# Altium schematic symbol library User.SchLib: 202 symbols (part 1 of 2)
Pins are listed as number, name and electrical type; pins without a type are passive.

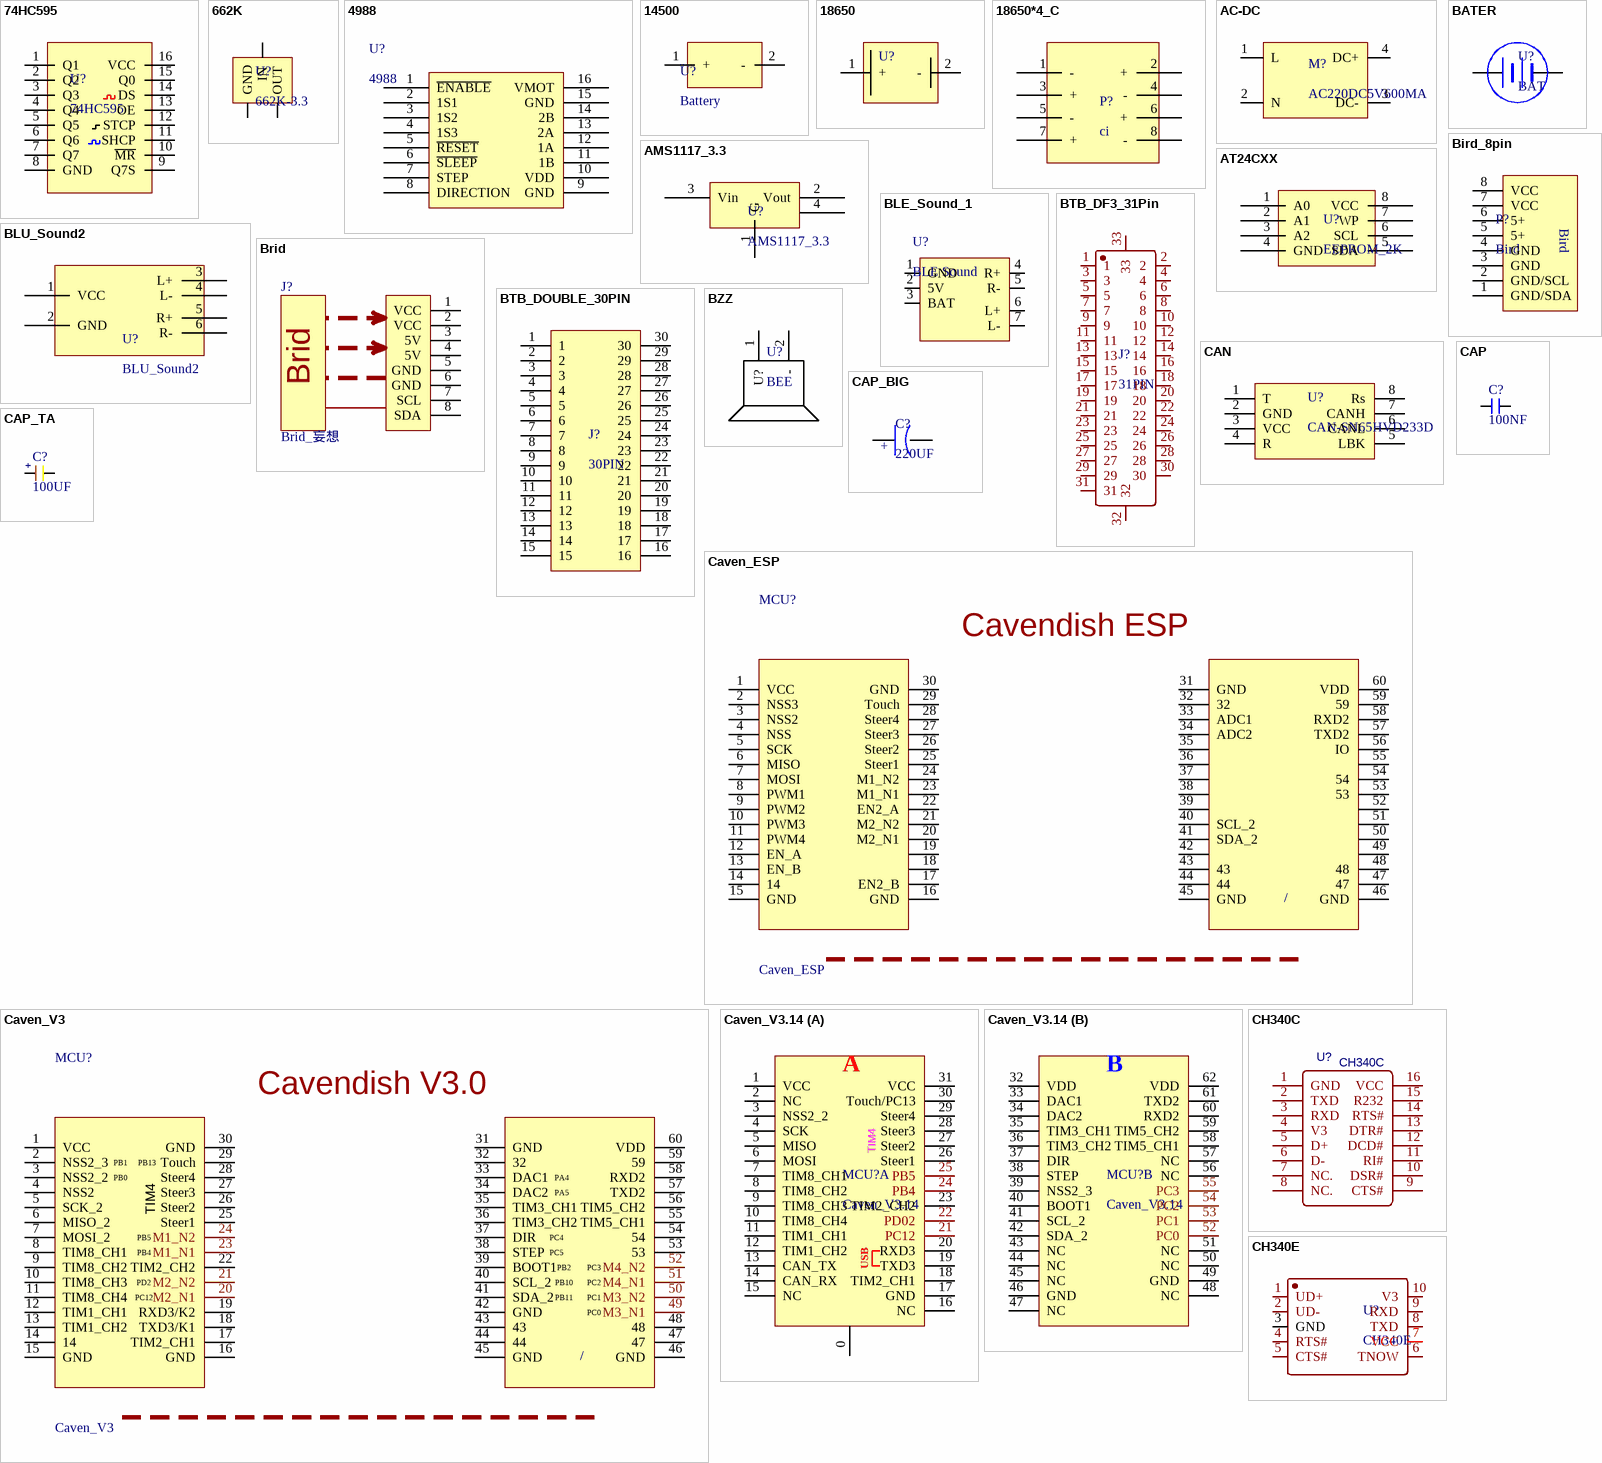
[diagram p0: symbols 74HC595 to CH340E]

## 74HC595
designator U?
IC
footprint SOIC_16
pins: 1 Q1, 2 Q2, 3 Q3, 4 Q4, 5 Q5, 6 Q6, 7 Q7, 8 GND, 9 Q7S, 10 ~{M}~{R}, 11 SHCP, 12 STCP, 13 OE, 14 DS, 15 Q0, 16 VCC

## 662K
designator U?, comment 662K-3.3
DC-DC
footprint SOT23_3
pins: 1 GND, 2 OUT, 3 IN

## 4988
designator U?
MODE
footprint 4988 (MODE)
pins: 1 ~{ENABLE}, 2 1S1, 3 1S2, 4 1S3, 5 ~{RESET}, 6 ~{SLEEP}, 7 STEP, 8 DIRECTION, 9 GND, 10 VDD, 11 1B, 12 1A, 13 2A, 14 2B, 15 GND, 16 VMOT

## 14500
designator U?, comment Battery
Bat
footprint 14500
pins: 1 +, 2 -

## 18650
designator U?, comment Battery  (value not drawn)
Bat
footprint 18650*1
footprint 18650*2
footprint 18650*4_B
footprint 18650*3
pins: 1 +, 2 -

## 18650*4_C
designator P?, comment ci
Bat
footprint 18650*4_C
pins: 1 -, 2 +, 3 +, 4 -, 5 -, 6 +, 7 +, 8 -

## AC-DC
designator M?, comment AC220DC5V600MA
AC-DC; BOM名称: AC-DC模块; 版权归属: 源创客; 学习资源: www.ooocke.com
footprint ADDC302018 (长宽高30*20*18（mm）)
footprint AC-DC
pins: 1 L, 2 N, 3 DC-, 4 DC+

## AMS1117_3.3
designator U?
DC-DC
footprint SOT223_3
pins: 1 G, 2 Vout, 3 Vin, 4 Vout

## AT24CXX
designator U?, comment EEPROM_2K
EEPROM
footprint SOIC_8
pins: 1 A0, 2 A1, 3 A2, 4 GND, 5 SDA, 6 SCL, 7 WP, 8 VCC

## BATER
designator U?, comment BAT
footprint CP1220
footprint CR_1220
pins: 1 +, 2 -

## Bird_8pin
designator P?, comment Bird
Header
footprint XH2.54-WS-8P (长：25mm，宽：8mm，高：6.1mm)
pins: 1 GND/SDA, 2 GND/SCL, 3 GND, 4 GND, 5 5+, 6 5+, 7 VCC, 8 VCC

## BLE_Sound_1
designator U?, comment BLE Sound
bule_tooth
footprint BLE_Sound_1
pins: 1 GND, 2 5V, 3 BAT, 4 R+, 5 R-, 6 L+, 7 L-

## BLU_Sound2
designator U?
bule_tooth
footprint BLE_Sound_2
pins: 1 VCC, 2 GND, 3 L+, 4 L-, 5 R+, 6 R-

## Brid
designator J?, comment Brid_妄想
Brid
footprint XH2.54-WS-8P (长：25mm，宽：8mm，高：6.1mm)
footprint Brid
pins: 1 VCC, 2 VCC, 3 5V, 4 5V, 5 GND, 6 GND, 7 SCL, 8 SDA

## BTB_DF3_31Pin
designator J?, comment 31PIN
BTB
footprint BTB-DF3-31P (1MM)
footprint BTB-DM3-31P
pins: 1, 2, 3, 4, 5, 6, 7, 8, 9, 10, 11, 12, 13, 14, 15, 16, 17, 18, 19, 20, 21, 22, 23, 24, 25, 26, 27, 28, 29, 30, 31, 32, 33

## BTB_DOUBLE_30PIN
designator J?, comment 30PIN
BTB
footprint BTB_Double_30Pin_Up
footprint BTB_Double_30PIN_D (0.8MM)
pins: 1, 2, 3, 4, 5, 6, 7, 8, 9, 10, 11, 12, 13, 14, 15, 16, 17, 18, 19, 20, 21, 22, 23, 24, 25, 26, 27, 28, 29, 30

## BZZ
designator U?, comment BEE
footprint BEE-FMQ5mm
footprint BEE-FMQ7.6mm
footprint SMD402
pins: 1 U?, 2 -

## CAN
designator U?, comment CAN-SN65HVD233D
CAN
footprint SOIC_8 (58mm)
pins: 1 T, 2 GND, 3 VCC, 4 R, 5 LBK, 6 CANL, 7 CANH, 8 Rs

## CAP
designator C?, comment 100NF
CAP  12~50V
footprint CAP_0603
footprint CAP_0805
footprint CAP_1206
footprint CAP_0402 - duplicate
pins: 1 0, 2 0

## CAP_BIG
designator C?, comment 220UF
CAP 12V ~ 50V   电解电容
footprint CAPE_D (6.3X6.6X5.4)
footprint CAPE_B (4X4.3X5.4)
footprint CAPE_E (8X8.3X6.2)
footprint CAP_PR_2.5_8 (8X12)
footprint CAP_PR_2.5_6.3_RA (6.3X11)
pins: 1 0, 2 0
text: +

## CAP_TA
designator C?, comment 100UF
CAP  6~12V  钽电容
footprint CAP_3528_B
footprint CAP_6032_C
footprint CAP_3216_A
footprint CAP_2012_R
pins: 1 0, 2 0
text: +

## Caven_ESP
designator MCU?
MCU Caven
footprint Caven_ESP
pins: 1 VCC, 2 NSS3, 3 NSS2, 4 NSS, 5 SCK, 6 MISO, 7 MOSI, 8 PWM1, 9 PWM2, 10 PWM3, 11 PWM4, 12 EN_A, 13 EN_B, 14, 15 GND, 16 GND, 17 EN2_B, 18 TXD3/K1, 19 RXD3/K2, 20 M2_N1, 21 M2_N2, 22 EN2_A, 23 M1_N1, 24 M1_N2, 25 Steer1, 26 Steer2, 27 Steer3, 28 Steer4, 29 Touch, 30 GND, 31 GND, 32, 33 ADC1, 34 ADC2, 35 TIM3_CH1, 36 TIM3_CH2, 37 DIR, 38 STEP, 39 BOOT1, 40 SCL_2, 41 SDA_2, 42 GND, 43, 44, 45 GND, 46 GND, 47, 48, 49 M3_N1, 50 M3_N2, 51 M4_N1, 52 M4_N2, 53, 54, 55 TIM5_CH1, 56 IO, 57 TXD2, 58 RXD2, 59, 60 VDD
text: Cavendish ESP; /

## Caven_V3
designator MCU?
MCU STM32_Caven
footprint Caven_STM32
pins: 1 VCC, 2 NSS2_3, 3 NSS2_2, 4 NSS2, 5 SCK_2, 6 MISO_2, 7 MOSI_2, 8 TIM8_CH1, 9 TIM8_CH2, 10 TIM8_CH3, 11 TIM8_CH4, 12 TIM1_CH1, 13 TIM1_CH2, 14, 15 GND, 16 GND, 17 TIM2_CH1, 18 TXD3/K1, 19 RXD3/K2, 20 M2_N1, 21 M2_N2, 22 TIM2_CH2, 23 M1_N1, 24 M1_N2, 25 Steer1, 26 Steer2, 27 Steer3, 28 Steer4, 29 Touch, 30 GND, 31 GND, 32, 33 DAC1, 34 DAC2, 35 TIM3_CH1, 36 TIM3_CH2, 37 DIR, 38 STEP, 39 BOOT1, 40 SCL_2, 41 SDA_2, 42 GND, 43, 44, 45 GND, 46 GND, 47, 48, 49 M3_N1, 50 M3_N2, 51 M4_N1, 52 M4_N2, 53, 54, 55 TIM5_CH1, 56 TIM5_CH2, 57 TXD2, 58 RXD2, 59, 60 VDD
text: Cavendish V3.0; PB1; PB13; PB0; PA4; PA5; TIM4; PB5; PC4; PB4; PC5; PB2; PC3; PD2; PB10; PC2; PC12; PB11; PC1; PC0; /

## Caven_V3.14
designator MCU?
MCU_STM32F103RE
footprint Caven_3.14
part A pins: 0, 1 VCC, 2 NC, 3 NSS2_2, 4 SCK, 5 MISO, 6 MOSI, 7 TIM8_CH1, 8 TIM8_CH2, 9 TIM8_CH3, 10 TIM8_CH4, 11 TIM1_CH1, 12 TIM1_CH2, 13 CAN_TX, 14 CAN_RX, 15 NC, 16 NC, 17 GND, 18 TIM2_CH1, 19 TXD3, 20 RXD3, 21 PC12, 22 PD02, 23 TIM2_CH2, 24 PB4, 25 PB5, 26 Steer1, 27 Steer2, 28 Steer3, 29 Steer4, 30 Touch/PC13, 31 VCC
part B pins: 32 VDD, 33 DAC1, 34 DAC2, 35 TIM3_CH1, 36 TIM3_CH2, 37 DIR, 38 STEP, 39 NSS2_3, 40 BOOT1, 41 SCL_2, 42 SDA_2, 43 NC, 44 NC, 45 NC, 46 GND, 47 NC, 48 NC, 49 GND, 50 NC, 51 NC, 52 PC0, 53 PC1, 54 PC2, 55 PC3, 56 NC, 57 NC, 58 TIM5_CH1, 59 TIM5_CH2, 60 RXD2, 61 TXD2, 62 VDD
part A text: A; TIM4; USB
part B text: B

## CH340C
designator U?
BOM_Manufacturer: WCH; BOM_Paste Type: recommend; BOM_Supplier: LCSC; BOM_Manufacturer Part: CH340C; BOM_Supplier Part: C84681; spicePre: U; spiceSymbolName: CH340C
footprint SOIC_16
footprint SOP16 (SOP, 16-Leads, Body 9.90x3.90mm, Pitch 1.27mm, IPC Medium Density)
pins: 1 GND, 2 TXD, 3 RXD, 4 V3, 5 D+, 6 D-, 7 NC., 8 NC., 9 CTS#, 10 DSR#, 11 RI#, 12 DCD#, 13 DTR#, 14 RTS#, 15 R232, 16 VCC

## CH340E
designator U?
IC CH340E 10pin
footprint MSOP_10
pins: 1 UD+, 2 UD-, 3 GND, 4 RTS#, 5 CTS#, 6 TNOW, 7 VCC, 8 TXD, 9 RXD, 10 V3

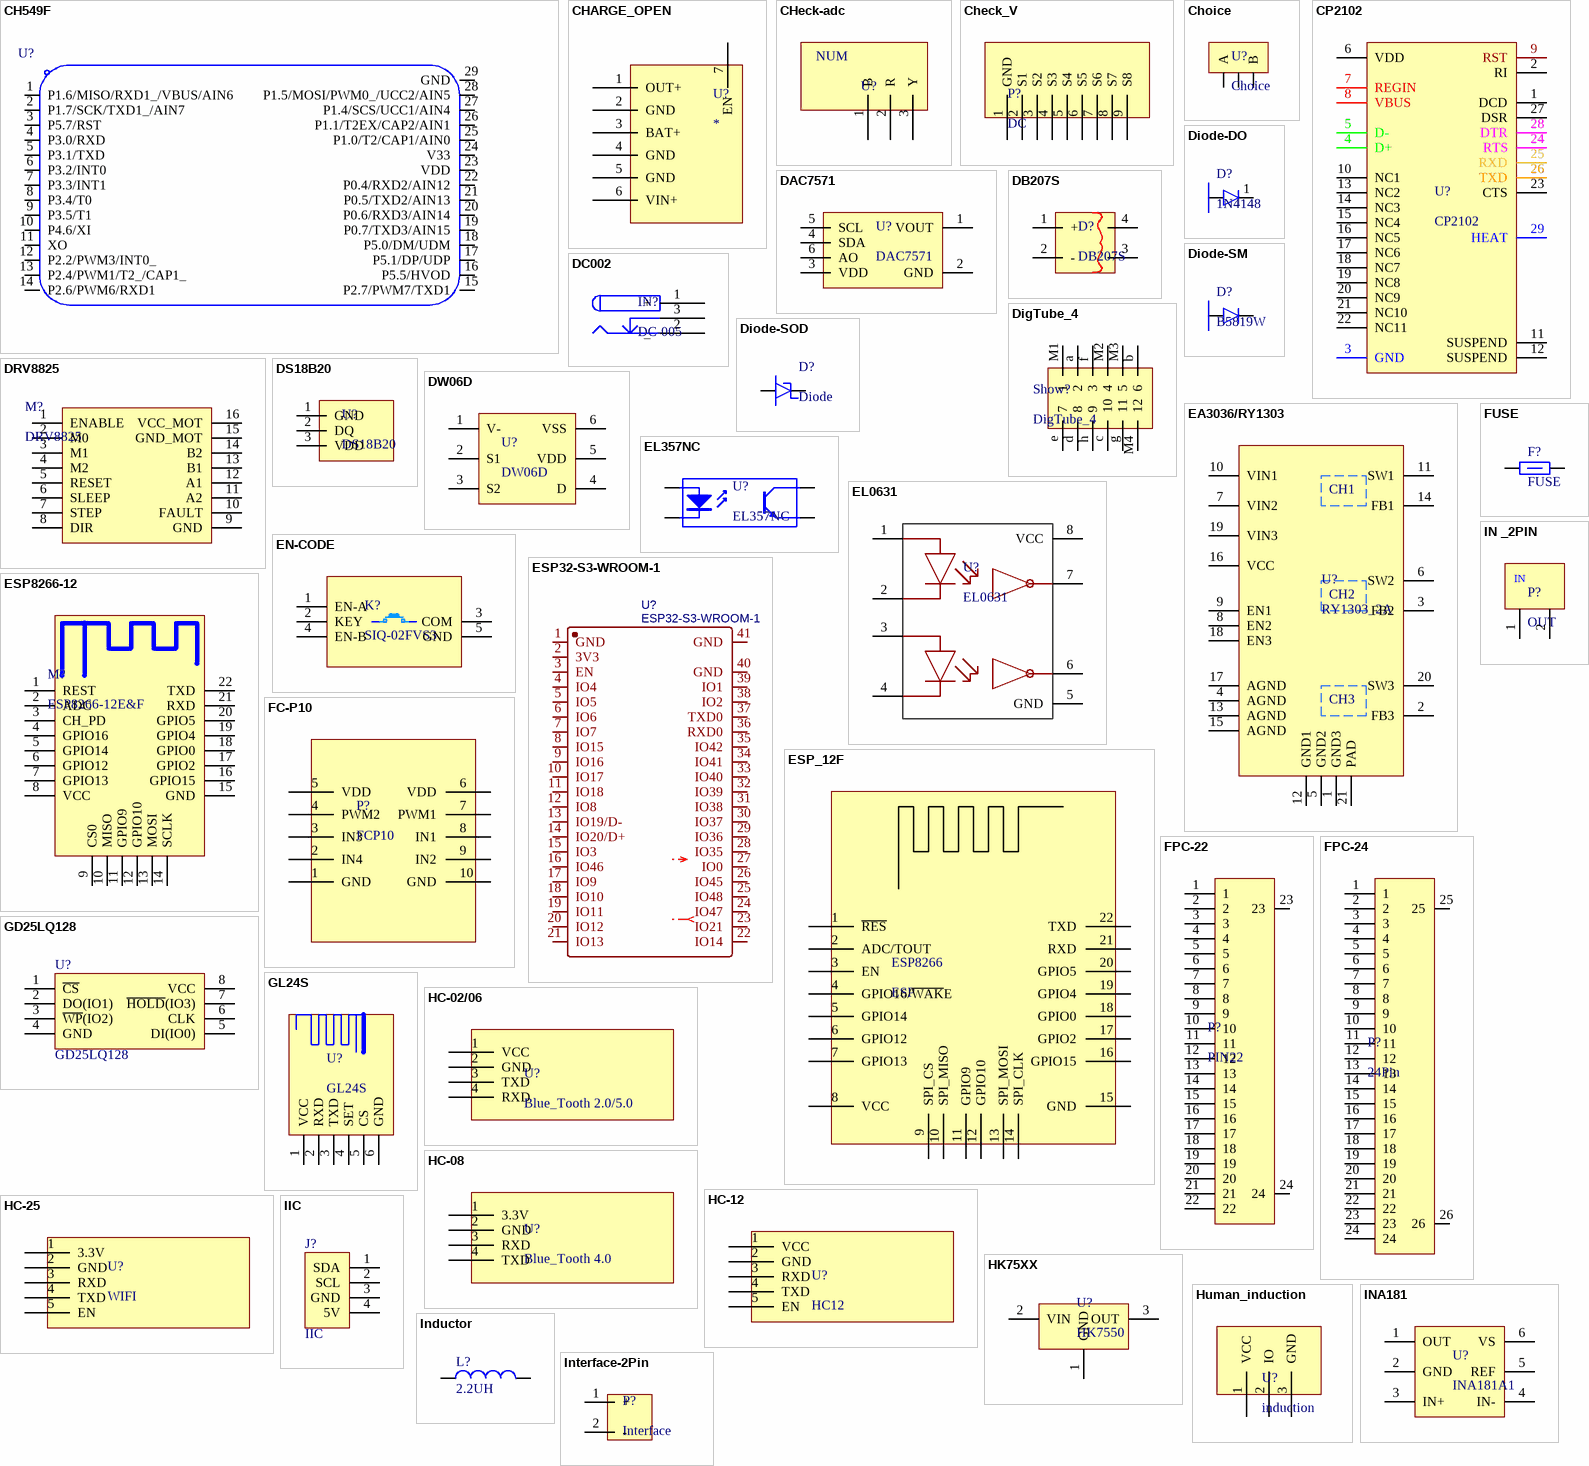
[diagram p1: symbols CH549F to Interface-2Pin]

## CH549F
designator U?
MCU; Manufacturer: WCH(南京沁恒); Add into BOM: yes; CPU Core: 51系列; Maximum Frequency: 48MHz; Supply Voltage Range: 3.3V~5V; Internal Oscillator: 有; External Clock Frequency Rang: 6MHz~25MHz; Program FLASH Size: 64KB; RAM Size: 2.25KB; EEPROM/Data FLASH Size: 1KB; ADC (Units/Channels/bits): 1@x16ch/12bit; (E)PWM (Units/Channels/bits): 1@x8ch/8bit; 16Bit Timer Number: 3; U(S)ART Number: 4; (Q)SPI Number: 1; USB (H/D/OTG): 全速USB Host/Device; Peripherals / Functions / Protocol Stacks: 低电压检测；看门狗；CCP捕获/比较；触控按键；片载温度传感器；CRC校验；DMA; Symbol: CH549F; Device: CH549F; LCSC Part Name: CH549F; Supplier Part: C367229; Manufacturer Part: CH549F; Supplier Footprint: QFN-28; JLCPCB Part Class: Extended Part; Datasheet: https://atta.szlcsc.com/upload/public/pdf/source/20200819/C367229_D216FC0E0489DFB21C5778C34F7DC8A5.pdf; Supplier: LCSC; Convert to PCB: yes; GPIO Ports Number: -; DAC (Units/Channels/bits): -; 8Bit Timer Number: -; 32Bit Timer Number: -; CMP Number: -; I2C Number: -; I2S Number: -; CAN Number: -; Operating Temperature Range: -40~+70
footprint QFN28_4X4_L
pins: 1 P1.6/MISO/RXD1_/VBUS/AIN6, 2 P1.7/SCK/TXD1_/AIN7, 3 P5.7/RST, 4 P3.0/RXD, 5 P3.1/TXD, 6 P3.2/INT0, 7 P3.3/INT1, 8 P3.4/T0, 9 P3.5/T1, 10 P4.6/XI, 11 XO, 12 P2.2/PWM3/INT0_, 13 P2.4/PWM1/T2_/CAP1_, 14 P2.6/PWM6/RXD1, 15 P2.7/PWM7/TXD1, 16 P5.5/HVOD, 17 P5.1/DP/UDP, 18 P5.0/DM/UDM, 19 P0.7/TXD3/AIN15, 20 P0.6/RXD3/AIN14, 21 P0.5/TXD2/AIN13, 22 P0.4/RXD2/AIN12, 23 VDD, 24 V33, 25 P1.0/T2/CAP1/AIN0, 26 P1.1/T2EX/CAP2/AIN1, 27 P1.4/SCS/UCC1/AIN4, 28 P1.5/MOSI/PWM0_/UCC2/AIN5, 29 GND

## CHARGE_OPEN
designator U?
DC-DC
footprint CHARGE_OPEN
pins: 1 OUT+, 2 GND, 3 BAT+, 4 GND, 5 GND, 6 VIN+, 7 EN

## CHeck-adc
designator U?, comment CHECK  (value not drawn)
MODE
footprint CHECK (VEL-CHECK)
pins: 1 B, 2 R, 3 Y
text: NUM

## Check_V
designator P?, comment DC
Show
footprint CHECH_V9
pins: 1 GND, 2 S1, 3 S2, 4 S3, 5 S4, 6 S5, 7 S6, 8 S7, 9 S8

## Choice
designator U?
footprint Choice_2
footprint Choose_3
pins: 1 A, 2, 3 B

## CP2102
designator U?
USB-TTL
footprint QFN28 5x5_N (28脚，长x宽x高：5x5x0.8mm，脚距：0.5mm)
pins: 1 DCD, 2 RI, 3 GND, 4 D+, 5 D-, 6 VDD, 7 REGIN, 8 VBUS, 9 RST, 10 NC1, 11 SUSPEND, 12 SUSPEND, 13 NC2, 14 NC3, 15 NC4, 16 NC5, 17 NC6, 18 NC7, 19 NC8, 20 NC9, 21 NC10, 22 NC11, 23 CTS, 24 RTS, 25 RXD, 26 TXD, 27 DSR, 28 DTR, 29 HEAT

## DAC7571
designator U?
DAC
footprint SOT-23-6
pins: 1 VOUT, 2 GND, 3 VDD, 4 SDA, 5 SCL, 6 AO

## DB207S
designator D?
footprint Diode_DB107S
pins: 1 +, 2 -, 3, 4

## DC002
designator IN?, comment DC-005
Interface
footprint DC-6mm
footprint DC002
footprint DC-005
pins: 1 +, 2 _, 3 _

## DigTube_4
designator Show?
Show
footprint DigTube_4
footprint DIG_3
pins: a 2, b 6, c 10, d 8, e 7, f 3, g 11, h 9, M1 1, M2 4, M3 5, M4 12

## Diode-DO
designator D?, comment 1N4148
Diode_肖特基/二极管 / 直插
footprint Diode_DO15
footprint Diode_DO35
footprint Diode_DO201AD
pins: 1 N, 2 P

## Diode-SM
designator D?, comment B5819W
Diode_肖特基/二极管
footprint Diode_SMA (SMA)
footprint DIODE-SMB
footprint SMC (DO-214AB(2114))
footprint DIODE_SOD123
pins: 1 P, 2 N

## Diode-SOD
designator D?, comment Diode
Diode    /稳压
footprint SOD123
footprint SOD323
footprint SOD523
footprint DIODE_1206
pins: 1 N, 2 P

## DRV8825
designator M?
MODE 步进电机; BOM名称: 步进电机驱动模块; 版权归属: 源创客; 学习资源: www.ooocke.com
footprint DRV8825 (长:20.5mm，宽:15.5mm，高:5mm)
pins: 1 ENABLE, 2 M0, 3 M1, 4 M2, 5 RESET, 6 SLEEP, 7 STEP, 8 DIR, 9 GND, 10 FAULT, 11 A2, 12 A1, 13 B1, 14 B2, 15 GND_MOT, 16 VCC_MOT

## DS18B20
designator U?
MODE
footprint TO_92B
pins: 1 GND, 2 DQ, 3 VDD

## DW06D
designator U?
Bat
footprint SOT23_6
pins: 1 V-, 2 S1, 3 S2, 4 D, 5 VDD, 6 VSS

## EA3036/RY1303
designator U?, comment RY1303_2A
DC-DC 多路
footprint QFN-20 (3*3MM)
pins: 1 GND3, 2 FB3, 3 FB2, 4 AGND, 5 GND2, 6 SW2, 7 VIN2, 8 EN2, 9 EN1, 10 VIN1, 11 SW1, 12 GND1, 13 AGND, 14 FB1, 15 AGND, 16 VCC, 17 AGND, 18 EN3, 19 VIN3, 20 SW3, 21 PAD
text: CH1; CH2; CH3

## EL357NC
designator U?
footprint SOP4 (AQY211G2S)
pins: 1 A "Anode", 2 K "Cathode", 3 E "Emitter", 4 C "Collector"

## EL0631
designator U?
pins: 1, 2, 3, 4, 5 GND, 6, 7, 8 VCC

## EN-CODE
designator K?, comment SIQ-02FVS3
KEY
footprint Rotary Encoder
footprint EC-11
pins: 1 EN-A, 2 KEY, 3 COM, 4 EN-B, 5 GND

## ESP32-S3-WROOM-1
designator U?
BOM_Manufacturer: Espressif Systems; BOM_Manufacturer Part: ESP32-SOLO-1; Contributor: LCSC; BOM_Supplier: LCSC; BOM_Supplier Part: C473005; BOM_JLCPCB Part Class: Extended Part; spicePre: U; spiceSymbolName: ESP32-S3-WROOM-1
footprint ESP32-S3-WROOM-1
pins: 1 GND, 2 3V3, 3 EN, 4 IO4, 5 IO5, 6 IO6, 7 IO7, 8 IO15, 9 IO16, 10 IO17, 11 IO18, 12 IO8, 13 IO19/D-, 14 IO20/D+, 15 IO3, 16 IO46, 17 IO9, 18 IO10, 19 IO11, 20 IO12, 21 IO13, 22 IO14, 23 IO21, 24 IO47, 25 IO48, 26 IO45, 27 IO0, 28 IO35, 29 IO36, 30 IO37, 31 IO38, 32 IO39, 33 IO40, 34 IO41, 35 IO42, 36 RXD0, 37 TXD0, 38 IO2, 39 IO1, 40 GND, 41 GND

## ESP8266-12
designator M?, comment ESP8266-12E&F
MODE; BOM名称: WIFI模块; 版权归属: 源创客; 学习资源: www.ooocke.com
footprint ESP-12F (ESP-12E&F)
pins: 1 REST, 2 ADC, 3 CH_PD, 4 GPIO16, 5 GPIO14, 6 GPIO12, 7 GPIO13, 8 VCC, 9 CS0, 10 MISO, 11 GPIO9, 12 GPIO10, 13 MOSI, 14 SCLK, 15 GND, 16 GPIO15, 17 GPIO2, 18 GPIO0, 19 GPIO4, 20 GPIO5, 21 RXD, 22 TXD

## ESP_12F
designator ESP8266, comment ESP
ESP8266
footprint ESP-12
pins: 1 ~{RES}, 2 ADC/TOUT, 3 EN, 4 GPIO16/~{WAK}E, 5 GPIO14, 6 GPIO12, 7 GPIO13, 8 VCC, 9 SPI_CS, 10 SPI_MISO, 11 GPIO9, 12 GPIO10, 13 SPI_MOSI, 14 SPI_CLK, 15 GND, 16 GPIO15, 17 GPIO2, 18 GPIO0, 19 GPIO4, 20 GPIO5, 21 RXD, 22 TXD

## FC-P10
designator P?, comment FCP10
P10
footprint IDC_10P
pins: 1 GND, 2 IN4, 3 IN3, 4 PWM2, 5 VDD, 6 VDD, 7 PWM1, 8 IN1, 9 IN2, 10 GND

## FPC-22
designator P?, comment PIN22
FPC-22
footprint FPC_22PIN
pins: 1, 2, 3, 4, 5, 6, 7, 8, 9, 10, 11, 12, 13, 14, 15, 16, 17, 18, 19, 20, 21, 22, 23, 24

## FPC-24
designator P?, comment 24Pin
FPC-24Pin-0.5mm
footprint FPC-24Pin
pins: 1, 2, 3, 4, 5, 6, 7, 8, 9, 10, 11, 12, 13, 14, 15, 16, 17, 18, 19, 20, 21, 22, 23, 24, 25, 26

## FUSE
designator F?
footprint FUSE_5X20
footprint FUSE_1206
footprint FUSE_1812
footprint Fuse_0805
footprint Fuse_0603
footprint FU 0805 (贴片保险丝)
pins: 1, 2

## GD25LQ128
designator U?
WSON-8
footprint WSON8
pins: 1 ~{CS}, 2 DO(IO1), 3 ~{WP}(IO2), 4 GND, 5 DI(IO0), 6 CLK, 7 ~{HOLD}(IO3), 8 VCC

## GL24S
designator U?
footprint GL24S
pins: 1 VCC, 2 RXD, 3 TXD, 4 SET, 5 CS, 6 GND

## HC-02/06
designator U?, comment Blue_Tooth 2.0/5.0
MODE
footprint P4_
footprint uart-Haerd
pins: 1 VCC, 2 GND, 3 TXD, 4 RXD

## HC-08
designator U?, comment Blue_Tooth 4.0
MODE
footprint P4_
pins: 1 3.3V, 2 GND, 3 RXD, 4 TXD

## HC-12
designator U?, comment HC12
MODE
footprint P5_EN
pins: 1 VCC, 2 GND, 3 RXD, 4 TXD, 5 EN

## HC-25
designator U?, comment WIFI
MODE
footprint P5_EN
pins: 1 3.3V, 2 GND, 3 RXD, 4 TXD, 5 EN

## HK75XX
designator U?, comment HK7550
DC-DC
footprint SOT89
pins: 1 GND, 2 VIN, 3 OUT

## Human_induction
designator U?, comment induction
footprint CHECK_3
pins: 1 VCC, 2 IO, 3 GND

## IIC
designator J?
Heard
footprint XH2.54-WI-4P (接插件，4P)
footprint XH2.54-WS-4P (长：15mm，宽：8mm，高：6.1mm)
footprint Header 2.54X4
footprint IIC-XH2.54-4PIN (-XH2.54-4PIN-)
pins: 1 SDA, 2 SCL, 3 GND, 4 5V

## IN _2PIN
designator P?, comment OUT
Header
footprint Header 2.54X2
footprint XH2.54-WI-2P (接插件，2P)
footprint PIN-2_5.08
footprint XT60-PW-M20 (长：18.8mm， 宽：16mm，高：8.6mm)
pins: 1, 2
text: IN

## INA181
designator U?, comment INA181A1
INA181 电流放大器 / 20v/v / 200v/v
footprint SOT-23-6
pins: 1 OUT, 2 GND, 3 IN+, 4 IN-, 5 REF, 6 VS

## Inductor
designator L?, comment 2.2UH
Inductor; Code_IEC: 1005; Published: 8-Jun-2000; LatestRevisionDate: 29-May-2009; LatestRevisionNote: IPC-7351 Footprint Added.; PackageReference: 0402-A; Publisher: Altium Limited; PackageDescription: Chip Inductor; Code_JEITA: 0402
footprint Inductance_nr
footprint INDUCTANCE_0630
footprint Inductor_0603
footprint Inductor_1206
footprint Inductor_0805
footprint Inductor_TC5026
footprint Inductor_CD_54
pins: 1, 2

## Interface-2Pin
designator P?, comment Interface
footprint 2PIN-5.08A
footprint 2PIN-5.08B (3A)
footprint PIN-2_5.08
footprint KF2EDGR_2P
footprint HB-9500_2P (2p_9.5mm)
pins: 1 +, 2 -

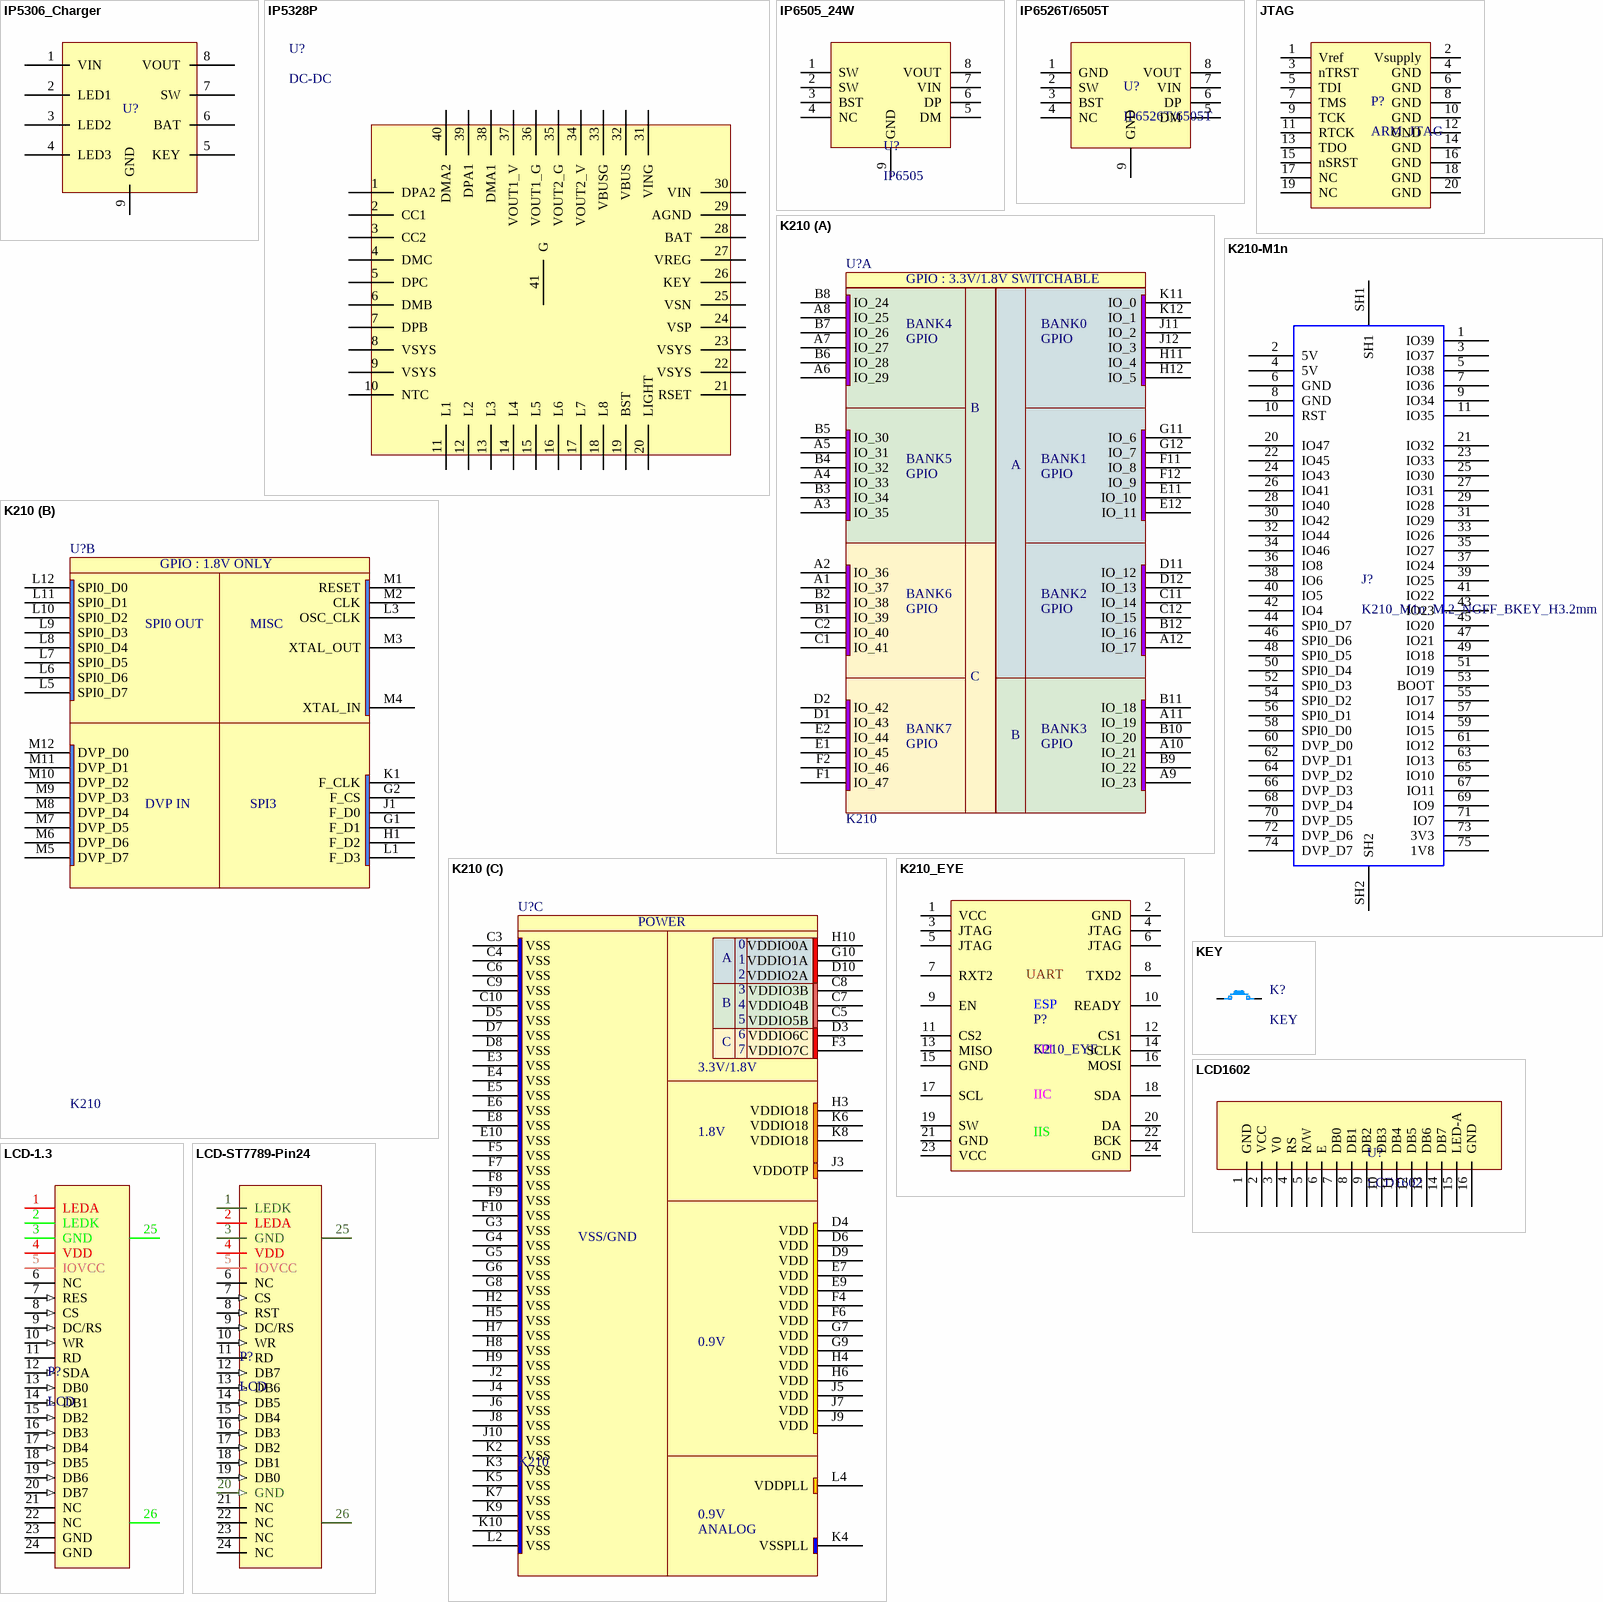
[diagram p2: symbols IP5306_Charger to LCD-ST7789-Pin24]

## IP5306_Charger
designator U?, comment CHARGER  (value not drawn)
DC-DC
footprint SOP8E_M (5.6*1.8mm（长宽高）)
pins: 1 VIN, 2 LED1, 3 LED2, 4 LED3, 5 KEY, 6 BAT, 7 SW, 8 VOUT, 9 GND

## IP5328P
designator U?, comment DC-DC
footprint QFN40_6X6
pins: 1 DPA2, 2 CC1, 3 CC2, 4 DMC, 5 DPC, 6 DMB, 7 DPB, 8 VSYS, 9 VSYS, 10 NTC, 11 L1, 12 L2, 13 L3, 14 L4, 15 L5, 16 L6, 17 L7, 18 L8, 19 BST, 20 LIGHT, 21 RSET, 22 VSYS, 23 VSYS, 24 VSP, 25 VSN, 26 KEY, 27 VREG, 28 BAT, 29 AGND, 30 VIN, 31 VING, 32 VBUS, 33 VBUSG, 34 VOUT2_V, 35 VOUT2_G, 36 VOUT1_G, 37 VOUT1_V, 38 DMA1, 39 DPA1, 40 DMA2, 41 G

## IP6505_24W
designator U?, comment IP6505
DC-DC
footprint SOP8E_M (5.6*1.8mm（长宽高）)
pins: 1 SW, 2 SW, 3 BST, 4 NC, 5 DM, 6 DP, 7 VIN, 8 VOUT, 9 GND

## IP6526T/6505T
designator U?
DC-DC
footprint SOP8E_M (5.6*1.8mm（长宽高）)
pins: 1 GND, 2 SW, 3 BST, 4 NC, 5 DM, 6 DP, 7 VIN, 8 VOUT, 9 GND

## JTAG
designator P?, comment ARM_JTAG
Interface
footprint JTAG20
pins: 1 Vref, 2 Vsupply, 3 nTRST, 4 GND, 5 TDI, 6 GND, 7 TMS, 8 GND, 9 TCK, 10 GND, 11 RTCK, 12 GND, 13 TDO, 14 GND, 15 nSRST, 16 GND, 17 NC, 18 GND, 19 NC, 20 GND

## K210
designator U?
Canaan Kendryte K210 AI SoC; VENDOR: CANAAN INC.
footprint K210
part A pins: A1 IO_37 "Voltage switchable GPIO for FPIOA (3.3V or 1.8V). After reset is :  GPIOHS21.", A2 IO_36 "Voltage switchable GPIO for FPIOA (3.3V or 1.8V). After reset is :  GPIOHS20.", A3 IO_35 "Voltage switchable GPIO for FPIOA (3.3V or 1.8V). After reset is :  GPIOHS19.", A4 IO_33 "Voltage switchable GPIO for FPIOA (3.3V or 1.8V). After reset is :  GPIOHS17.", A5 IO_31 "Voltage switchable GPIO for FPIOA (3.3V or 1.8V). After reset is :  GPIOHS15.", A6 IO_29 "Voltage switchable GPIO for FPIOA (3.3V or 1.8V). After reset is :  GPIOHS13.", A7 IO_27 "Voltage switchable GPIO for FPIOA (3.3V or 1.8V). After reset is :  GPIOHS11.", A8 IO_25 "Voltage switchable GPIO for FPIOA (3.3V or 1.8V). After reset is :  GPIOHS9.", A9 IO_23 "Voltage switchable GPIO for FPIOA (3.3V or 1.8V). After reset is :  GPIOHS7.", A10 IO_21 "Voltage switchable GPIO for FPIOA (3.3V or 1.8V). After reset is :  GPIOHS5.", A11 IO_19 "Voltage switchable GPIO for FPIOA (3.3V or 1.8V). After reset is :  GPIOHS3.", A12 IO_17 "Voltage switchable GPIO for FPIOA (3.3V or 1.8V). After reset is :  GPIOHS1.", B1 IO_39 "Voltage switchable GPIO for FPIOA (3.3V or 1.8V). After reset is :  GPIOHS23.", B2 IO_38 "Voltage switchable GPIO for FPIOA (3.3V or 1.8V). After reset is :  GPIOHS22.", B3 IO_34 "Voltage switchable GPIO for FPIOA (3.3V or 1.8V). After reset is :  GPIOHS18.", B4 IO_32 "Voltage switchable GPIO for FPIOA (3.3V or 1.8V). After reset is :  GPIOHS16.", B5 IO_30 "Voltage switchable GPIO for FPIOA (3.3V or 1.8V). After reset is :  GPIOHS14.", B6 IO_28 "Voltage switchable GPIO for FPIOA (3.3V or 1.8V). After reset is :  GPIOHS12.", B7 IO_26 "Voltage switchable GPIO for FPIOA (3.3V or 1.8V). After reset is :  GPIOHS10.", B8 IO_24 "Voltage switchable GPIO for FPIOA (3.3V or 1.8V). After reset is :  GPIOHS8.", B9 IO_22 "Voltage switchable GPIO for FPIOA (3.3V or 1.8V). After reset is :  GPIOHS6.", B10 IO_20 "Voltage switchable GPIO for FPIOA (3.3V or 1.8V). After reset is :  GPIOHS4.", B11 IO_18 "Voltage switchable GPIO for FPIOA (3.3V or 1.8V). After reset is :  GPIOHS2.", B12 IO_16 "Voltage switchable GPIO for FPIOA (3.3V or 1.8V). After reset is :  GPIOHS0.", C1 IO_41 "Voltage switchable GPIO for FPIOA (3.3V or 1.8V). After reset is :  GPIOHS25.", C2 IO_40 "Voltage switchable GPIO for FPIOA (3.3V or 1.8V). After reset is :  GPIOHS24.", C11 IO_14 "Voltage switchable GPIO for FPIOA (3.3V or 1.8V). After reset is :  GPIO6.", C12 IO_15 "Voltage switchable GPIO for FPIOA (3.3V or 1.8V). After reset is :  GPIO7.", D1 IO_43 "Voltage switchable GPIO for FPIOA (3.3V or 1.8V). After reset is :  GPIOHS27.", D2 IO_42 "Voltage switchable GPIO for FPIOA (3.3V or 1.8V). After reset is :  GPIOHS26.", D11 IO_12 "Voltage switchable GPIO for FPIOA (3.3V or 1.8V). After reset is :  GPIO4.", D12 IO_13 "Voltage switchable GPIO for FPIOA (3.3V or 1.8V). After reset is :  GPIO5.", E1 IO_45 "Voltage switchable GPIO for FPIOA (3.3V or 1.8V). After reset is :  GPIOHS29.", E2 IO_44 "Voltage switchable GPIO for FPIOA (3.3V or 1.8V). After reset is :  GPIOHS28.", E11 IO_10 "Voltage switchable GPIO for FPIOA (3.3V or 1.8V). After reset is :  GPIO2.", E12 IO_11 "Voltage switchable GPIO for FPIOA (3.3V or 1.8V). After reset is :  GPIO3.", F1 IO_47 "Voltage switchable GPIO for FPIOA (3.3V or 1.8V). After reset is :  GPIOHS31.", F2 IO_46 "Voltage switchable GPIO for FPIOA (3.3V or 1.8V). After reset is :  GPIOHS30.", F11 IO_8 "Voltage switchable GPIO for FPIOA (3.3V or 1.8V). After reset is :  GPIO0.", F12 IO_9 "Voltage switchable GPIO for FPIOA (3.3V or 1.8V). After reset is :  GPIO1.", G11 IO_6 "Voltage switchable GPIO for FPIOA (3.3V or 1.8V). After reset is :  (FLOAT*).", G12 IO_7 "Voltage switchable GPIO for FPIOA (3.3V or 1.8V). After reset is :  (FLOAT*).", H11 IO_4 "Voltage switchable GPIO for FPIOA (3.3V or 1.8V). After reset is :  UARTHS_RX.", H12 IO_5 "Voltage switchable GPIO for FPIOA (3.3V or 1.8V). After reset is :  UARTHS_TX.", J11 IO_2 "Voltage switchable GPIO for FPIOA (3.3V or 1.8V). After reset is :  JTAG_TMS.", J12 IO_3 "Voltage switchable GPIO for FPIOA (3.3V or 1.8V). After reset is :  JTAG_TDO.", K11 IO_0 "Voltage switchable GPIO for FPIOA (3.3V or 1.8V). After reset is :  JTAG_TCLK.", K12 IO_1 "Voltage switchable GPIO for FPIOA (3.3V or 1.8V). After reset is :  JTAG_TDI."
part B pins: G1 F_D1 "Fixed 1.8V GPIO for SPI. After reset is :  F_D1.", G2 F_CS "Fixed 1.8V GPIO for SPI. After reset is :  F_CS.", H1 F_D2 "Fixed 1.8V GPIO for SPI. After reset is :  F_D2.", J1 F_D0 "Fixed 1.8V GPIO for SPI. After reset is :  F_D0.", K1 F_CLK "Fixed 1.8V GPIO for SPI. After reset is :  F_CLK.", L1 F_D3 "Fixed 1.8V GPIO for SPI. After reset is :  F_D3.", L3 OSC_CLK "Clock output for oscillator, based on external crystal. After reset is :  OSC_CLK.", L5 SPI0_D7 "Output only GPIO for SPI0 D7. After reset is :  (FLOAT*).", L6 SPI0_D6 "Output only GPIO for SPI0 D6. After reset is :  (FLOAT*).", L7 SPI0_D5 "Output only GPIO for SPI0 D5. After reset is :  (FLOAT*).", L8 SPI0_D4 "Output only GPIO for SPI0 D4. After reset is :  (FLOAT*).", L9 SPI0_D3 "Output only GPIO for SPI0 D3. After reset is :  (FLOAT*).", L10 SPI0_D2 "Output only GPIO for SPI0 D2. After reset is :  (FLOAT*).", L11 SPI0_D1 "Output only GPIO for SPI0 D1. After reset is :  (FLOAT*).", L12 SPI0_D0 "Output only GPIO for SPI0 D0. After reset is :  (FLOAT*).", M1 RESET "System Reset (LOW reset). After reset is :  RESET.", M2 CLK "System clock input. After reset is :  CLK.", M3 XTAL_OUT "External crystal output, non fail-safe, can't connect active signal during power failure. After reset is :  XTAL_OUT.", M4 XTAL_IN "External crystal input, non fail-safe, can't connect active signal during power failure. After reset is :  XTAL_IN.", M5 DVP_D7 "Input only GPIO for DVP D7. After reset is :  (FLOAT*).", M6 DVP_D6 "Input only GPIO for DVP D6. After reset is :  (FLOAT*).", M7 DVP_D5 "Input only GPIO for DVP D5. After reset is :  (FLOAT*).", M8 DVP_D4 "Input only GPIO for DVP D4. After reset is :  (FLOAT*).", M9 DVP_D3 "Input only GPIO for DVP D3. After reset is :  (FLOAT*).", M10 DVP_D2 "Input only GPIO for DVP D2. After reset is :  (FLOAT*).", M11 DVP_D1 "Input only GPIO for DVP D1. After reset is :  (FLOAT*).", M12 DVP_D0 "Input only GPIO for DVP D0. After reset is :  (FLOAT*)."
part C pins: C3 VSS (power) "Ground. After reset is :  VSS.", C4 VSS (power) "Ground. After reset is :  VSS.", C5 VDDIO5B (power) "3.3V Power supply for voltage switchable GPIO. After reset is :  VDDIO33.", C6 VSS (power) "Ground. After reset is :  VSS.", C7 VDDIO4B (power) "3.3V Power supply for voltage switchable GPIO. After reset is :  VDDIO33.", C8 VDDIO3B (power) "3.3V Power supply for voltage switchable GPIO. After reset is :  VDDIO33.", C9 VSS (power) "Ground. After reset is :  VSS.", C10 VSS (power) "Ground. After reset is :  VSS.", D3 VDDIO6C (power) "3.3V Power supply for voltage switchable GPIO. After reset is :  VDDIO33.", D4 VDD (power) "0.9V Power supply for digital core. After reset is :  VDD.", D5 VSS (power) "Ground. After reset is :  VSS.", D6 VDD (power) "0.9V Power supply for digital core. After reset is :  VDD.", D7 VSS (power) "Ground. After reset is :  VSS.", D8 VSS (power) "Ground. After reset is :  VSS.", D9 VDD (power) "0.9V Power supply for digital core. After reset is :  VDD.", D10 VDDIO2A (power) "3.3V Power supply for voltage switchable GPIO. After reset is :  VDDIO33.", E3 VSS (power) "Ground. After reset is :  VSS.", E4 VSS (power) "Ground. After reset is :  VSS.", E5 VSS (power) "Ground. After reset is :  VSS.", E6 VSS (power) "Ground. After reset is :  VSS.", E7 VDD (power) "0.9V Power supply for digital core. After reset is :  VDD.", E8 VSS (power) "Ground. After reset is :  VSS.", E9 VDD (power) "0.9V Power supply for digital core. After reset is :  VDD.", E10 VSS (power) "Ground. After reset is :  VSS.", F3 VDDIO7C (power) "3.3V Power supply for voltage switchable GPIO. After reset is :  VDDIO33.", F4 VDD (power) "0.9V Power supply for digital core. After reset is :  VDD.", F5 VSS (power) "Ground. After reset is :  VSS.", F6 VDD (power) "0.9V Power supply for digital core. After reset is :  VDD.", F7 VSS (power) "Ground. After reset is :  VSS.", F8 VSS (power) "Ground. After reset is :  VSS.", F9 VSS (power) "Ground. After reset is :  VSS.", F10 VSS (power) "Ground. After reset is :  VSS.", G3 VSS (power) "Ground. After reset is :  VSS.", G4 VSS (power) "Ground. After reset is :  VSS.", G5 VSS (power) "Ground. After reset is :  VSS.", G6 VSS (power) "Ground. After reset is :  VSS.", G7 VDD (power) "0.9V Power supply for digital core. After reset is :  VDD.", G8 VSS (power) "Ground. After reset is :  VSS.", G9 VDD (power) "0.9V Power supply for digital core. After reset is :  VDD.", G10 VDDIO1A (power) "3.3V Power supply for voltage switchable GPIO. After reset is :  VDDIO33.", H2 VSS (power) "Ground. After reset is :  VSS.", H3 VDDIO18 (power) "1.8V Power supply for GPIO. After reset is :  VDDIO18.", H4 VDD (power) "0.9V Power supply for digital core. After reset is :  VDD.", H5 VSS (power) "Ground. After reset is :  VSS.", H6 VDD (power) "0.9V Power supply for digital core. After reset is :  VDD.", H7 VSS (power) "Ground. After reset is :  VSS.", H8 VSS (power) "Ground. After reset is :  VSS.", H9 VSS (power) "Ground. After reset is :  VSS.", H10 VDDIO0A (power) "3.3V Power supply for voltage switchable GPIO. After reset is :  VDDIO33.", J2 VSS (power) "Ground. After reset is :  VSS.", J3 VDDOTP (power) "1.8V Power supply for OTP. After reset is :  VDDOTP.", J4 VSS (power) "Ground. After reset is :  VSS.", J5 VDD (power) "0.9V Power supply for digital core. After reset is :  VDD.", J6 VSS (power) "Ground. After reset is :  VSS.", J7 VDD (power) "0.9V Power supply for digital core. After reset is :  VDD.", J8 VSS (power) "Ground. After reset is :  VSS.", J9 VDD (power) "0.9V Power supply for digital core. After reset is :  VDD.", J10 VSS (power) "Ground. After reset is :  VSS.", K2 VSS (power) "Ground. After reset is :  VSS.", K3 VSS (power) "Ground. After reset is :  VSS.", K4 VSSPLL (power) "Analog Ground. for PLL. After reset is :  VSSPLL.", K5 VSS (power) "Ground. After reset is :  VSS.", K6 VDDIO18 (power) "1.8V Power supply for GPIO. After reset is :  VDDIO18.", K7 VSS (power) "Ground. After reset is :  VSS.", K8 VDDIO18 (power) "1.8V Power supply for GPIO. After reset is :  VDDIO18.", K9 VSS (power) "Ground. After reset is :  VSS.", K10 VSS (power) "Ground. After reset is :  VSS.", L2 VSS (power) "Ground. After reset is :  VSS.", L4 VDDPLL (power) "0.9V Analog Power supply for PLL. After reset is :  VDDPLL."
part A text: GPIO : 3.3V/1.8V SWITCHABLE; BANK4; BANK0; GPIO; B; BANK5; BANK1; A; BANK6; BANK2; C; BANK7; BANK3
part B text: GPIO : 1.8V ONLY; SPI0 OUT; MISC; DVP IN; SPI3
part C text: POWER; 0; A; 1; 2; 3; B; 4; 5; 6; C; 7; 3.3V/1.8V; 1.8V; VSS/GND; 0.9V; ANALOG

## K210-M1n
designator J?, comment K210_M1n_M.2_NGFF_BKEY_H3.2mm
K210-M1n
footprint K210-M1n
pins: 1 IO39, 2 5V, 3 IO37, 4 5V, 5 IO38, 6 GND, 7 IO36, 8 GND, 9 IO34, 10 RST, 11 IO35, 20 IO47, 21 IO32, 22 IO45, 23 IO33, 24 IO43, 25 IO30, 26 IO41, 27 IO31, 28 IO40, 29 IO28, 30 IO42, 31 IO29, 32 IO44, 33 IO26, 34 IO46, 35 IO27, 36 IO8, 37 IO24, 38 IO6, 39 IO25, 40 IO5, 41 IO22, 42 IO4, 43 IO23, 44 SPI0_D7, 45 IO20, 46 SPI0_D6, 47 IO21, 48 SPI0_D5, 49 IO18, 50 SPI0_D4, 51 IO19, 52 SPI0_D3, 53 BOOT, 54 SPI0_D2, 55 IO17, 56 SPI0_D1, 57 IO14, 58 SPI0_D0, 59 IO15, 60 DVP_D0, 61 IO12, 62 DVP_D1, 63 IO13, 64 DVP_D2, 65 IO10, 66 DVP_D3, 67 IO11, 68 DVP_D4, 69 IO9, 70 DVP_D5, 71 IO7, 72 DVP_D6, 73 3V3, 74 DVP_D7, 75 1V8, SH1, SH2

## K210_EYE
designator P?
footprint K210_MODE_High (li)
pins: 1 VCC, 2 GND, 3 JTAG, 4 JTAG, 5 JTAG, 6 JTAG, 7 RXT2, 8 TXD2, 9 EN, 10 READY, 11 CS2, 12 CS1, 13 MISO, 14 SCLK, 15 GND, 16 MOSI, 17 SCL, 18 SDA, 19 SW, 20 DA, 21 GND, 22 BCK, 23 VCC, 24 GND
text: UART; ESP; SPI; IIC; IIS

## KEY
designator K?
footprint SW_PB_3X6
footprint KEY-A
footprint KEY-C-Side-1 (3*6*4.3)
footprint KEY-C-Side-2
footprint KEY-K2
footprint KEY6X6SMD
footprint KEY_SMD-4P (3*4*2.5MM)
footprint KEY_SMD_S_2P
pins: 1, 2

## LCD1602
designator U?
SHOW
pins: 1 GND, 2 VCC, 3 V0, 4 RS, 5 R/W, 6 E, 7 DB0, 8 DB1, 9 DB2, 10 DB3, 11 DB4, 12 DB5, 13 DB6, 14 DB7, 15 LED-A, 16 GND

## LCD-1.3
designator P?, comment LCD
ST7789 1.3寸
pins: 1 LEDA (power), 2 LEDK, 3 GND, 4 VDD, 5 IOVCC, 6 NC, 7 RES (in), 8 CS (in), 9 DC/RS (in), 10 WR (in), 11 RD, 12 SDA (in), 13 DB0 (in), 14 DB1 (in), 15 DB2 (in), 16 DB3 (in), 17 DB4 (in), 18 DB5 (in), 19 DB6 (in), 20 DB7 (in), 21 NC, 22 NC, 23 GND, 24 GND, 25 GND, 26 GND

## LCD-ST7789-Pin24
designator P?, comment LCD
Show 2.4-2.8寸
footprint FPC-24Pin
footprint FPC_24P-F (0.5MM)
pins: 1 LEDK, 2 LEDA (power), 3 GND, 4 VDD, 5 IOVCC, 6 NC, 7 CS (in), 8 RST (in), 9 DC/RS (in), 10 WR (in), 11 RD, 12 DB7 (in), 13 DB6 (in), 14 DB5 (in), 15 DB4 (in), 16 DB3 (in), 17 DB2 (in), 18 DB1 (in), 19 DB0 (in), 20 GND (in), 21 NC, 22 NC, 23 NC, 24 NC, 25 GND, 26 GND

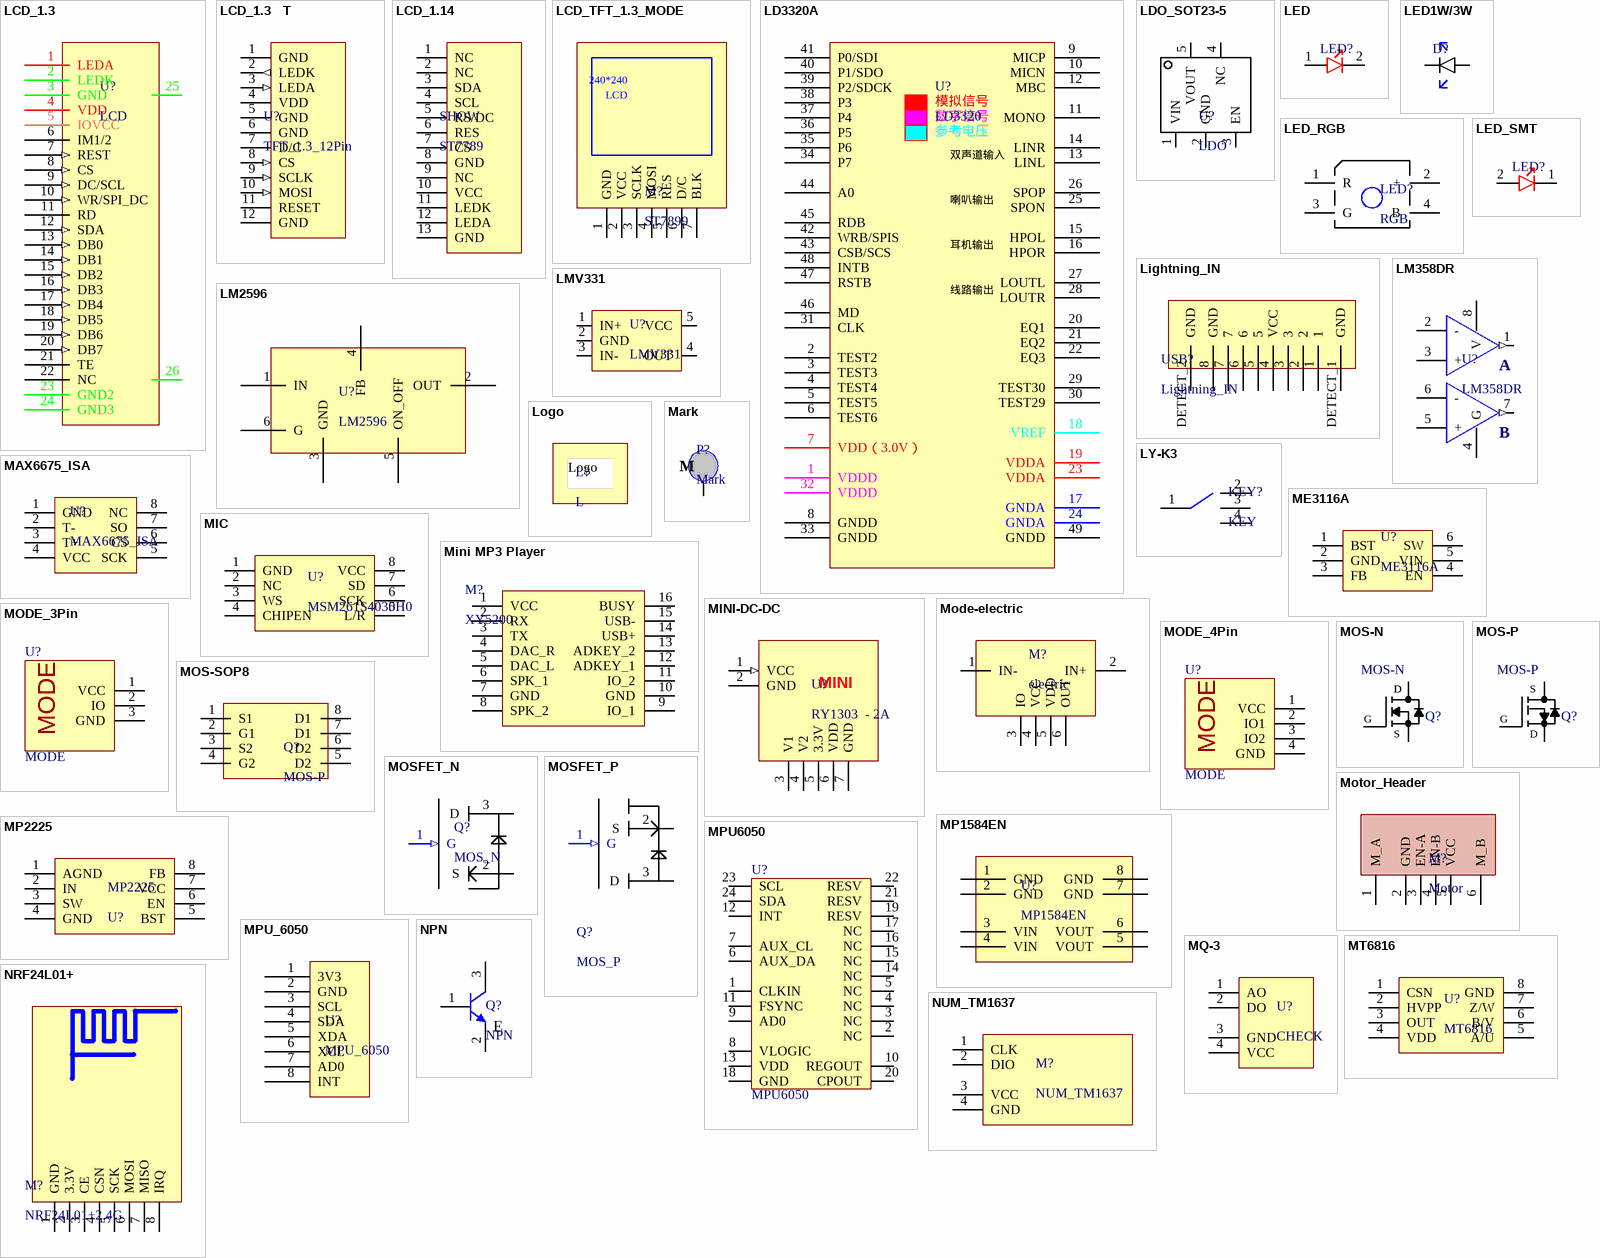
[diagram p3: symbols LCD_1.3 to NUM_TM1637]

## LCD_1.3
designator U?, comment LCD
SHOW  24Pin
footprint LCD_1.3
pins: 1 LEDA (power), 2 LEDK, 3 GND, 4 VDD, 5 IOVCC, 6 IM1/2, 7 REST (in), 8 CS (in), 9 DC/SCL (in), 10 WR/SPI_DC (in), 11 RD, 12 SDA (in), 13 DB0 (in), 14 DB1 (in), 15 DB2 (in), 16 DB3 (in), 17 DB4 (in), 18 DB5 (in), 19 DB6 (in), 20 DB7 (in), 21 TE, 22 NC, 23 GND2, 24 GND3, 25 GND, 26 GND

## LCD_1.3   T
designator U?, comment TFT_1.3_12Pin
ST7789V-SPI
footprint LCD_Show
footprint LCD_1.3B
pins: 1 GND, 2 LEDK (out), 3 LEDA (in), 4 VDD, 5 GND, 6 GND, 7 D/C, 8 CS (in), 9 SCLK (in), 10 MOSI (in), 11 RESET, 12 GND

## LCD_1.14
designator SHOW, comment ST7789
SHOW
footprint LCD_1.14 (ST7789)
pins: 1 NC, 2 NC, 3 SDA, 4 SCL, 5 RS/DC, 6 RES, 7 CS, 8 GND, 9 NC, 10 VCC, 11 LEDK, 12 LEDA, 13 GND

## LCD_TFT_1.3_MODE
designator M?, comment ST7899
SHOW
footprint LCD_1.3_MODE
pins: 1 GND, 2 VCC, 3 SCLK, 4 MOSI, 5 RES, 6 D/C, 7 BLK
text: 240*240; LCD

## LD3320A
designator U?, comment LD3320
IC
footprint QFN48 7X7_M (48脚，长x宽x高：7x7x1mm，脚距：0.5mm)
pins: 1 VDDD, 2 TEST2, 3 TEST3, 4 TEST4, 5 TEST5, 6 TEST6, 7 VDD（3.0V）, 8 GNDD, 9 MICP, 10 MICN, 11 MONO, 12 MBC, 13 LINL, 14 LINR, 15 HPOL, 16 HPOR, 17 GNDA, 18 VREF, 19 VDDA, 20 EQ1, 21 EQ2, 22 EQ3, 23 VDDA, 24 GNDA, 25 SPON, 26 SPOP, 27 LOUTL, 28 LOUTR, 29 TEST30, 30 TEST29, 31 CLK, 32 VDDD, 33 GNDD, 34 P7, 35 P6, 36 P5, 37 P4, 38 P3, 39 P2/SDCK, 40 P1/SDO, 41 P0/SDI, 42 WRB/SPIS, 43 CSB/SCS, 44 A0, 45 RDB, 46 MD, 47 RSTB, 48 INTB, 49 GNDD
text: 模拟信号; 数字信号; 参考电压; 双声道输入; 喇叭输出; 耳机输出; 线路输出

## LDO_SOT23-5
designator U?, comment LDO
LDO  3.3V  500ma
footprint SOT23_5
pins: 1 VIN, 2 GND, 3 EN, 4 NC, 5 VOUT

## LED
designator LED?, comment LED_R/G/B/Y  (value not drawn)
LED
footprint LED_5MM
footprint LED_5MM_RA
footprint LED_3MM
pins: 1 +, 2 -

## LED1W/3W
designator D?  (value not drawn)
LED
footprint LED1W/3W
footprint LED_5w
pins: 1 -, 2 +

## LED_RGB
designator LED?, comment RGB
LED
footprint RGB_3528
pins: 1 R, 2 +, 3 G, 4 B

## LED_SMT
designator LED?, comment LED_R/G/B/Y  (value not drawn)
LED
footprint C0806
footprint LED_0603_R
footprint LED_0805_R
footprint LED_0603_B
pins: 1 -, 2 +

## Lightning_IN
designator USB?
USB
footprint Lightning
pins: 1, 2, 3, 4 VCC, 5, 6, 7, 8 GND, DETECT_1 GND, DETECT_2 GND

## LM358DR
designator U?
IC    双路放大器
footprint SOIC_8 (58mm)
pins: 1 (out), 2 -, 3 +, 4 G, 5 +, 6 -, 7 (out), 8 V
text: A; B

## LM2596
designator U?
DC-DC
footprint TO263_5
pins: 1 IN, 2 OUT, 3 GND, 4 FB, 5 ON_OFF, 6 G

## LMV331
designator U?
比较器
footprint SOT23_5
pins: 1 IN+, 2 GND, 3 IN-, 4 OUT, 5 VCC

## Logo
designator L?, comment L
Logo
footprint Logo_Q
footprint LOGO_Clear
footprint LOGO_Q_B
footprint LOGO_FRIE
footprint LOGO_AM
footprint LOGO_AM_B
footprint LOGO_Altium
footprint LOGO_Blutooth
footprint LOGO_teach
footprint LOGO_MCU
footprint LU

## LY-K3
designator KEY?, comment KEY
footprint KEY-K1-1502SA
pins: 1, 2, 3, 4

## Mark
designator P?
footprint Mark
pins: 1
text: M

## MAX6675_ISA
designator U?
IC
footprint SOIC_8 (58mm)
pins: 1 GND, 2 T-, 3 T+, 4 VCC, 5 SCK, 6 CS, 7 SO, 8 NC

## ME3116A
designator U?
pins: 1 BST, 2 GND, 3 FB, 4 EN, 5 VIN, 6 SW

## MIC
designator U?, comment MSM261S4030H0
pins: 1 GND, 2 NC, 3 WS, 4 CHIPEN, 5 L/R, 6 SCK, 7 SD, 8 VCC

## Mini MP3 Player
designator M?, comment XY5200
MODE MP3模块; 版权归属: 源创客; BOM名称: MP3模块; 学习资源: www.ooocke.com
footprint DFPlayer Mini (长：21mm ， 宽： 21mm，高：6mm)
pins: 1 VCC, 2 RX, 3 TX, 4 DAC_R, 5 DAC_L, 6 SPK_1, 7 GND, 8 SPK_2, 9 IO_1, 10 GND, 11 IO_2, 12 ADKEY_1, 13 ADKEY_2, 14 USB+, 15 USB-, 16 BUSY

## MINI-DC-DC
designator U?, comment RY1303  - 2A
DC-DC  MODE
footprint MINI-Power-DC_DC (4 Ch)
pins: 1 VCC (in), 2 GND, 3 V1 (power), 4 V2 (power), 5 3.3V (power), 6 VDD (power), 7 GND
text: MINI

## Mode-electric
designator M?, comment electric
Mode-electric
footprint MODE-ELECTRIC
pins: 1 IN-, 2 IN+, 3 IO, 4 VCC, 5 VDD, 6 OUT

## MODE_3Pin
designator U?, comment MODE
footprint Header F 2.54X3
pins: 1 VCC, 2 IO, 3 GND

## MODE_4Pin
designator U?, comment MODE
footprint Header F 2.54X4
pins: 1 VCC, 2 IO1, 3 IO2, 4 GND

## MOS-N
designator Q?
MOSFET N-CH; Manufacturer: ON Semiconductor; Manufacturer Part Number: NTMFS5C628NLT1G; FET Type: N-Channel; Drive Voltage (Max Rds On,  Min Rds On): 4.5V, 10V; Vgs(th) (Max) @ Id: 2V @ 135µA; Gate Charge (Qg) (Max) @ Vgs: 52nC @ 10V; Input Capacitance (Ciss) (Max) @ Vds: 3600pF @ 25V; Vgs (Max): ±20V; Power Dissipation (Max): 3.7W (Ta), 110W (Tc); Rds On (Max) @ Id, Vgs: 2.4 mOhm @ 50A, 10V; Supplier 1: Digi-Key; Supplier Part Number 1: NTMFS5C628NLT1GOSCT-ND; RoHS: RoHS Compliant; Category: Discrete Semiconductor Products; Stock: 1490; Pricing 1: 1=1.8, 10=1.627, 100=1.3078, 500=1.01716 (USD); Packaging: Cut Tape (CT); Part Status: Active; Technology: MOSFET (Metal Oxide); Current - Continuous Drain (Id) @ 25°C: -; FET Feature: -; Operating Temperature: -55°C ~ 175°C (TJ); Mounting Type: Surface Mount; Supplier Device Package: 5-DFN (5x6) (8-SOFL); Package / Case: 8-PowerTDFN; ComponentLink1URL: http://www.onsemi.com/pub/Collateral/NTMFS5C628NL-D.PDF; ComponentLink1Description: http://www.onsemi.com/pub/Collateral/NTMFS5C628NL-D.PDF; Supplier 2: Digi-Key; Supplier Part Number 2: NTMFS5C628NLT1GOSTR-ND; Pricing 2: 1500=0.81823 (USD)
footprint SO8FL (DFN5 5x6, 1.27P  (SO-8FL)  CASE 488AA)
footprint SOT23_3
footprint TO252_2
pins: 1 G, 2 S, 3 D

## MOS-P
designator Q?
MOSFET P-CH; Manufacturer: ON Semiconductor; Manufacturer Part Number: NTMFS5C628NLT1G; FET Type: N-Channel; Drive Voltage (Max Rds On,  Min Rds On): 4.5V, 10V; Vgs(th) (Max) @ Id: 2V @ 135µA; Gate Charge (Qg) (Max) @ Vgs: 52nC @ 10V; Input Capacitance (Ciss) (Max) @ Vds: 3600pF @ 25V; Vgs (Max): ±20V; Power Dissipation (Max): 3.7W (Ta), 110W (Tc); Rds On (Max) @ Id, Vgs: 2.4 mOhm @ 50A, 10V; Supplier 1: Digi-Key; Supplier Part Number 1: NTMFS5C628NLT1GOSCT-ND; RoHS: RoHS Compliant; Category: Discrete Semiconductor Products; Stock: 1490; Pricing 1: 1=1.8, 10=1.627, 100=1.3078, 500=1.01716 (USD); Packaging: Cut Tape (CT); Part Status: Active; Technology: MOSFET (Metal Oxide); Current - Continuous Drain (Id) @ 25°C: -; FET Feature: -; Operating Temperature: -55°C ~ 175°C (TJ); Mounting Type: Surface Mount; Supplier Device Package: 5-DFN (5x6) (8-SOFL); Package / Case: 8-PowerTDFN; ComponentLink1URL: http://www.onsemi.com/pub/Collateral/NTMFS5C628NL-D.PDF; ComponentLink1Description: http://www.onsemi.com/pub/Collateral/NTMFS5C628NL-D.PDF; Supplier 2: Digi-Key; Supplier Part Number 2: NTMFS5C628NLT1GOSTR-ND; Pricing 2: 1500=0.81823 (USD)
footprint SO8FL (DFN5 5x6, 1.27P  (SO-8FL)  CASE 488AA)
footprint SOT23_3
footprint TO252_2
pins: 1 G, 2 S, 3 D

## MOS-SOP8
designator Q?, comment MOS-P
MOS
footprint SOP_8_M (5.58)
pins: 1 S1, 2 G1, 3 S2, 4 G2, 5 D2, 6 D2, 7 D1, 8 D1

## MOSFET_N
designator Q?, comment MOS_N
MOS
footprint TO252_2
footprint SOT23_3
footprint SO8FL
pins: 1 G (in), 2 S, 3 D

## MOSFET_P
designator Q?, comment MOS_P
MOS
footprint TO252_2
footprint SOT23_3
pins: 1 G (in), 2 S, 3 D

## Motor_Header
designator M?, comment Motor
Header
footprint XH2.54-WI-6P (接插件，6P)
pins: 1 M_A, 2 GND, 3 EN-A, 4 EN-B, 5 VCC, 6 M_B

## MP1584EN
designator U?
DC-DC
footprint MP1584EN (MODE)
pins: 1 GND, 2 GND, 3 VIN, 4 VIN, 5 VOUT, 6 VOUT, 7 GND, 8 GND

## MP2225
designator MP2225, comment U?
DC-DC
pins: 1 AGND, 2 IN, 3 SW, 4 GND, 5 BST, 6 EN, 7 VCC, 8 FB

## MPU6050
designator U?
6轴运动处理传感器
footprint QFN24 4x4_N (24脚，长x宽x高：4x4x1mm，脚距：0.5mm)
pins: 1 CLKIN, 2 NC, 3 NC, 4 NC, 5 NC, 6 AUX_DA, 7 AUX_CL, 8 VLOGIC, 9 AD0, 10 REGOUT, 11 FSYNC, 12 INT, 13 VDD, 14 NC, 15 NC, 16 NC, 17 NC, 18 GND, 19 RESV, 20 CPOUT, 21 RESV, 22 RESV, 23 SCL, 24 SDA

## MPU_6050
designator U?
MODE
footprint MPU-G521
pins: 1 3V3, 2 GND, 3 SCL, 4 SDA, 5 XDA, 6 XCL, 7 AD0, 8 INT

## MQ-3
designator U?, comment CHECK
footprint Alcohol
pins: 1 AO, 2 DO, 3 GND, 4 VCC

## MT6816
designator U?
MT6816   --编码
pins: 1 CSN, 2 HVPP, 3 OUT, 4 VDD, 5 A/U, 6 B/V, 7 Z/W, 8 GND

## NPN
designator Q?
footprint SOT23_3
pins: 1 B, 2 E, 3 C

## NRF24L01+
designator M?, comment NRF24L01+2.4G
MODE; BOM名称: 2.4G无线模块; 版权归属: 源创客; 学习资源: www.ooocke.com
footprint NRF24L01+B (2.4G无线模块)
pins: 1 GND, 2 3.3V, 3 CE, 4 CSN, 5 SCK, 6 MOSI, 7 MISO, 8 IRQ

## NUM_TM1637
designator M?
SHOW
footprint XH2.54-WI-4P (接插件，4P)
pins: 1 CLK, 2 DIO, 3 VCC, 4 GND

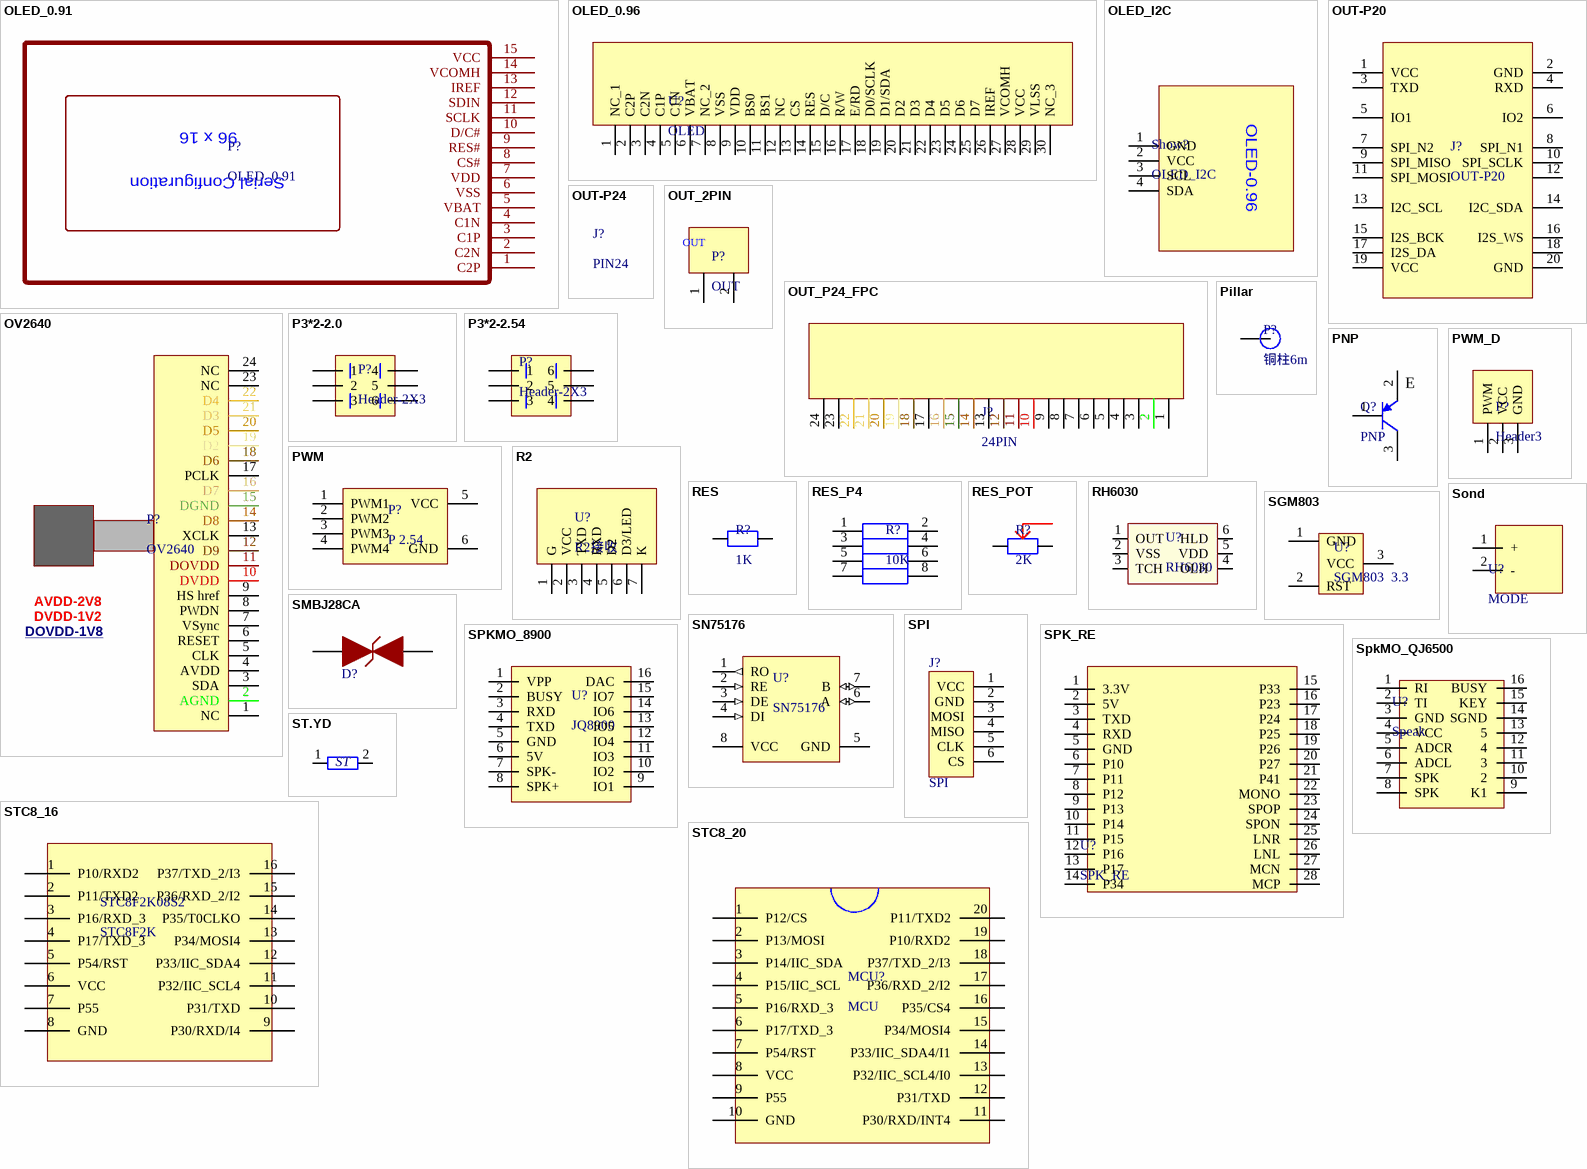
[diagram p4: symbols OLED_0.91 to STC8_20]

## OLED_0.91
designator P?
SHOW
footprint OLED_0.91
pins: 1 C2P, 2 C2N, 3 C1P, 4 C1N, 5 VBAT, 6 VSS, 7 VDD, 8 CS#, 9 RES#, 10 D/C#, 11 SCLK, 12 SDIN, 13 IREF, 14 VCOMH, 15 VCC
text: 96 x 16; Serial Configuration

## OLED_0.96
designator U?, comment OLED
SHOW
footprint OLED_0.96
footprint OLED_FPC
footprint OLED-1.3_Z
pins: 1 NC_1, 2 C2P, 3 C2N, 4 C1P, 5 C1N, 6 VBAT, 7 NC_2, 8 VSS, 9 VDD, 10 BS0, 11 BS1, 12 NC, 13 CS, 14 RES, 15 D/C, 16 R/W, 17 E/RD, 18 D0/SCLK, 19 D1/SDA, 20 D2, 21 D3, 22 D4, 23 D5, 24 D6, 25 D7, 26 IREF, 27 VCOMH, 28 VCC, 29 VLSS, 30 NC_3

## OLED_I2C
designator Show?
MODE
footprint OLED_I2C
pins: 1 GND, 2 VCC, 3 SCL, 4 SDA
text: OLED-0.96

## OUT-P20
designator J?
Header
footprint OUT_20PIN
pins: 1 VCC, 2 GND, 3 TXD, 4 RXD, 5 IO1, 6 IO2, 7 SPI_N2, 8 SPI_N1, 9 SPI_MISO, 10 SPI_SCLK, 11 SPI_MOSI, 12 SPI_SCLK, 13 I2C_SCL, 14 I2C_SDA, 15 I2S_BCK, 16 I2S_WS, 17 I2S_DA, 18 I2S_BCK, 19 VCC, 20 GND

## OUT-P24
designator J?, comment PIN24
Header
footprint OUT_24PIN (JIN-2.54MM)

## OUT_2PIN
designator P?, comment OUT
Header
footprint Header 2.54X2
footprint XH2.54-WI-2P (接插件，2P)
footprint PIN-2_5.08
pins: 1, 2

## OUT_P24_FPC
designator J?, comment 24PIN
Header
footprint FPC_24P (0.5MM)
pins: 1 NC, 2 AGND, 3 SIO_D, 4 AVDD, 5 SIO_C, 6 RESET, 7 VSync, 8 PWDN, 9 HS href, 10 DVDD, 11 DOVDD, 12 D9, 13 XCLK, 14 D8, 15 DGND, 16 D7, 17 PCLK, 18 D6, 19 D2, 20 D5, 21 D3, 22 D4, 23 NC, 24 NC

## OV2640
designator P?
Camera
footprint OV5642_M12 (8.5MM)
footprint FPC-24Pin
pins: 1 NC, 2 AGND, 3 SDA, 4 AVDD, 5 CLK, 6 RESET, 7 VSync, 8 PWDN, 9 HS href, 10 DVDD, 11 DOVDD, 12 D9, 13 XCLK, 14 D8, 15 DGND, 16 D7, 17 PCLK, 18 D6, 19 D2, 20 D5, 21 D3, 22 D4, 23 NC, 24 NC
text: AVDD-2V8; DVDD-1V2; DOVDD-1V8

## P3*2-2.0
designator P?, comment Header-2X3
Header
footprint P2.0_P3*2
pins: 1, 2, 3, 4, 5, 6

## P3*2-2.54
designator P?, comment Header-2X3
Header
footprint Header 2.54_2X3
pins: 1, 2, 3, 4, 5, 6

## Pillar
designator P?, comment 铜柱6m
IN-OUT
footprint M3x6_L-Type (M3铜柱，长：6mm)
pins: 1 IO

## PNP
designator Q?
footprint SOT23_3
pins: 1 B, 2 E, 3 C

## PWM
designator P?, comment P 2.54
IO
footprint PWM_P4
pins: 1 PWM1, 2 PWM2, 3 PWM3, 4 PWM4, 5 VCC, 6 GND

## PWM_D
designator P?, comment Header3
Header
footprint PWM_Steer-B
footprint PWM_Steer-F
pins: 1 PWM, 2 VCC, 3 GND

## R2
designator U?, comment R2接收
footprint R2
pins: 1 G, 2 VCC, 3 TXD, 4 RXD, 5 D2, 6 D3/LED, 7 K

## RES
designator R?, comment 1K
RES 贴片
footprint RESC_0603_2
footprint RESC_0805
footprint RESC_1206
footprint RES_0.4_1/4W
footprint 2512 (64mm*32mm)
footprint RES_0402
pins: 1, 2

## RES_P4
designator R?, comment 10K
RES
footprint RESC_0603_4
pins: 1, 2, 3, 4, 5, 6, 7, 8

## RES_POT
designator R?, comment 2K
RES
footprint RES_SMD_3X3
pins: 1 3, 2, 3 1

## RH6030
designator U?
TOUCH
footprint SOT-23-6
pins: 1 OUT, 2 VSS, 3 TCH, 4 OLH, 5 VDD, 6 HLD

## SGM803
designator U?, comment SGM803  3.3
SGM803 监控芯片电压，不符合就重启
footprint SOT23_3
pins: 1 GND, 2 RST, 3 VCC

## SMBJ28CA
designator D?  (value not drawn)
footprint SMBJ-CA_MFG
pins: 1, 2

## SN75176
designator U?
pins: 1 RO (out), 2 RE (in), 3 DE (in), 4 DI (in), 5 GND, 6 A (io), 7 B (io), 8 VCC

## Sond
designator U?, comment MODE
footprint Sound
pins: 1 +, 2 -

## SPI
designator J?
Heard
footprint Header 2.54X6
pins: 1 VCC, 2 GND, 3 MOSI, 4 MISO, 5 CLK, 6 CS

## SPK_RE
designator U?
MODE
footprint SPKRE (SPKAI)
pins: 1 3.3V, 2 5V, 3 TXD, 4 RXD, 5 GND, 6 P10, 7 P11, 8 P12, 9 P13, 10 P14, 11 P15, 12 P16, 13 P17, 14 P34, 15 P33, 16 P23, 17 P24, 18 P25, 19 P26, 20 P27, 21 P41, 22 MONO, 23 SPOP, 24 SPON, 25 LNR, 26 LNL, 27 MCN, 28 MCP

## SPKMO_8900
designator U?, comment JQ8900
MODE
footprint SpkMo
pins: 1 VPP, 2 BUSY, 3 RXD, 4 TXD, 5 GND, 6 5V, 7 SPK-, 8 SPK+, 9 IO1, 10 IO2, 11 IO3, 12 IO4, 13 IO5, 14 IO6, 15 IO7, 16 DAC

## SpkMO_QJ6500
designator U?, comment Speak
MODE
footprint SpkMo
pins: 1 RI, 2 TI, 3 GND, 4 VCC, 5 ADCR, 6 ADCL, 7 SPK, 8 SPK, 9 K1, 10 2, 11 3, 12 4, 13 5, 14 SGND, 15 KEY, 16 BUSY

## ST.YD
designator ST, comment ST  (value not drawn)
Logo
footprint ST.yd
pins: 1, 2

## STC8_16
designator STC8F2K08S2, comment STC8F2K
MCU
footprint SOP16
pins: 1 P10/RXD2, 2 P11/TXD2, 3 P16/RXD_3, 4 P17/TXD_3, 5 P54/RST, 6 VCC, 7 P55, 8 GND, 9 P30/RXD/I4, 10 P31/TXD, 11 P32/IIC_SCL4, 12 P33/IIC_SDA4, 13 P34/MOSI4, 14 P35/T0CLKO, 15 P36/RXD_2/I2, 16 P37/TXD_2/I3

## STC8_20
designator MCU?, comment MCU
MCU  2 uart; no adc ; 5 time
footprint TSSOP_20 (0.65)
pins: 1 P12/CS, 2 P13/MOSI, 3 P14/IIC_SDA, 4 P15/IIC_SCL, 5 P16/RXD_3, 6 P17/TXD_3, 7 P54/RST, 8 VCC, 9 P55, 10 GND, 11 P30/RXD/INT4, 12 P31/TXD, 13 P32/IIC_SCL4/I0, 14 P33/IIC_SDA4/I1, 15 P34/MOSI4, 16 P35/CS4, 17 P36/RXD_2/I2, 18 P37/TXD_2/I3, 19 P10/RXD2, 20 P11/TXD2

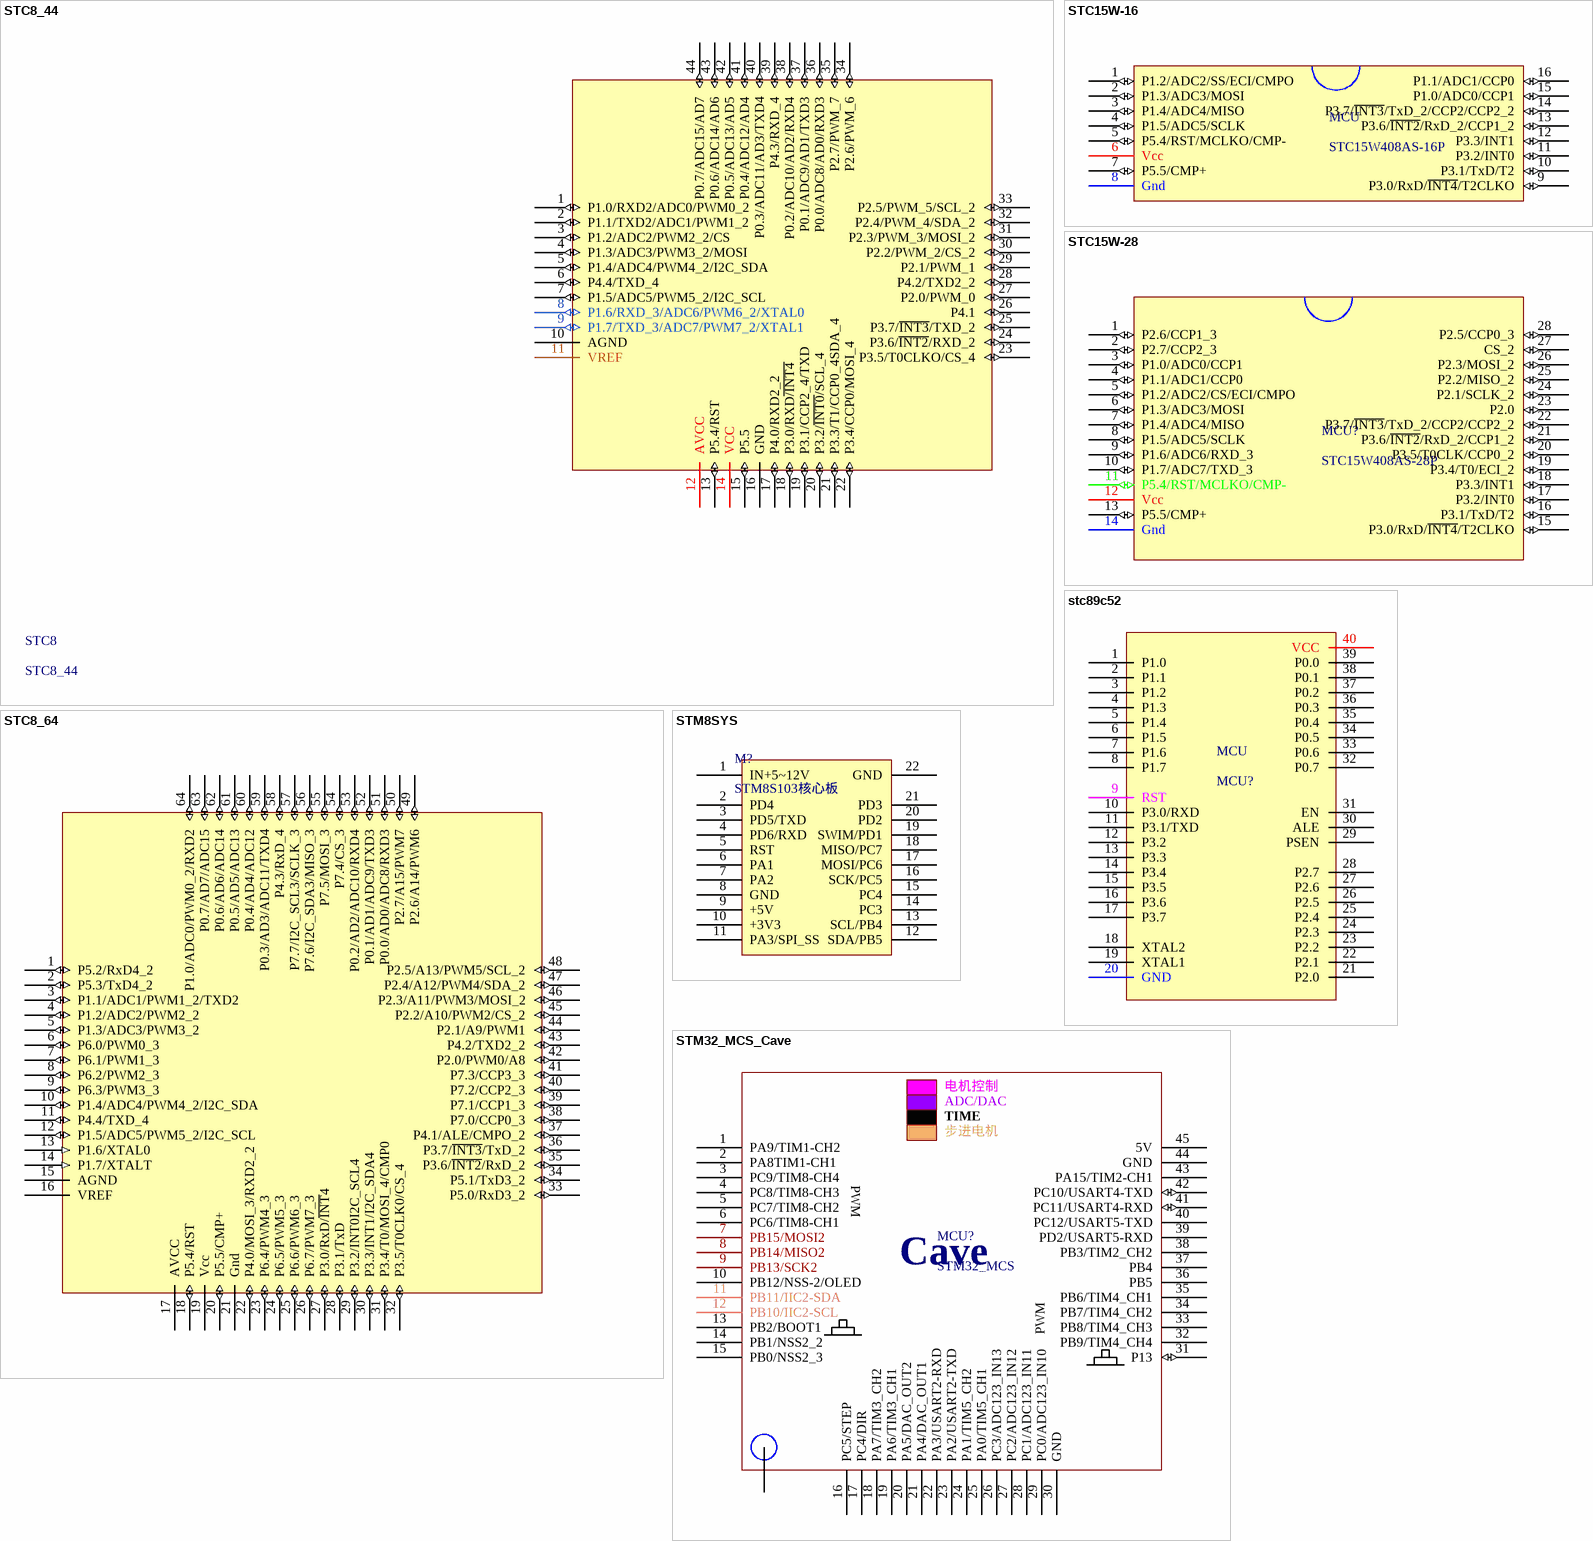
[diagram p5: symbols STC8_44 to STM32_MCS_Cave]

## STC8_44
designator STC8
MCU
footprint LQFP_44_10X10
pins: 1 P1.0/RXD2/ADC0/PWM0_2 (io), 2 P1.1/TXD2/ADC1/PWM1_2 (io), 3 P1.2/ADC2/PWM2_2/CS (io), 4 P1.3/ADC3/PWM3_2/MOSI (io), 5 P1.4/ADC4/PWM4_2/I2C_SDA (io), 6 P4.4/TXD_4 (io), 7 P1.5/ADC5/PWM5_2/I2C_SCL (io), 8 P1.6/RXD_3/ADC6/PWM6_2/XTAL0 (io), 9 P1.7/TXD_3/ADC7/PWM7_2/XTAL1 (io), 10 AGND (power), 11 VREF (power), 12 AVCC (power), 13 P5.4/RST (io), 14 VCC (power), 15 P5.5 (io), 16 GND (power), 17 P4.0/RXD2_2 (io), 18 P3.0/RXD~{/INT4} (io), 19 P3.1/CCP2_4/TXD (io), 20 P3.2/~{INT0}/SCL_4 (io), 21 P3.3/T1/CCP0_4SDA_4 (io), 22 P3.4/CCP0/MOSI_4 (io), 23 P3.5/T0CLKO/CS_4 (io), 24 P3.6/~{INT2}/RXD_2 (io), 25 P3.7/~{INT3}/TXD_2 (io), 26 P4.1 (io), 27 P2.0/PWM_0 (io), 28 P4.2/TXD2_2 (io), 29 P2.1/PWM_1 (io), 30 P2.2/PWM_2/CS_2 (io), 31 P2.3/PWM_3/MOSI_2 (io), 32 P2.4/PWM_4/SDA_2 (io), 33 P2.5/PWM_5/SCL_2 (io), 34 P2.6/PWM_6 (io), 35 P2.7/PWM_7 (io), 36 P0.0/ADC8/AD0/RXD3 (io), 37 P0.1/ADC9/AD1/TXD3 (io), 38 P0.2/ADC10/AD2/RXD4 (io), 39 P4.3/RXD_4 (io), 40 P0.3/ADC11/AD3/TXD4 (io), 41 P0.4/ADC12/AD4 (io), 42 P0.5/ADC13/AD5 (io), 43 P0.6/ADC14/AD6 (io), 44 P0.7/ADC15/AD7 (io)

## STC8_64
designator STC8?
MCU
footprint LQFP_64_10X10
pins: 1 P5.2/RxD4_2 (io), 2 P5.3/TxD4_2 (io), 3 P1.1/ADC1/PWM1_2/TXD2 (io), 4 P1.2/ADC2/PWM2_2 (io), 5 P1.3/ADC3/PWM3_2 (io), 6 P6.0/PWM0_3 (io), 7 P6.1/PWM1_3 (io), 8 P6.2/PWM2_3 (io), 9 P6.3/PWM3_3 (io), 10 P1.4/ADC4/PWM4_2/I2C_SDA (io), 11 P4.4/TXD_4 (io), 12 P1.5/ADC5/PWM5_2/I2C_SCL (io), 13 P1.6/XTAL0 (in), 14 P1.7/XTALT (in), 15 AGND (power), 16 VREF (power), 17 AVCC (power), 18 P5.4/RST (io), 19 Vcc (power), 20 P5.5/CMP+ (io), 21 Gnd (power), 22 P4.0/MOSI_3/RXD2_2 (io), 23 P6.4/PWM4_3 (io), 24 P6.5/PWM5_3 (io), 25 P6.6/PWM6_3 (io), 26 P6.7/PWM7_3 (io), 27 P3.0/RxD/~{INT}4 (io), 28 P3.1/TxD (io), 29 P3.2/INT0I2C_SCL4 (io), 30 P3.3/INT1/I2C_SDA4 (io), 31 P3.4/T0/MOSI_4/CMP0 (io), 32 P3.5/T0CLK0/CS_4 (io), 33 P5.0/RxD3_2 (io), 34 P5.1/TxD3_2 (io), 35 P3.6/~{INT2}/RxD_2 (io), 36 P3.7/~{INT3}/TxD_2 (io), 37 P4.1/ALE/CMPO_2 (io), 38 P7.0/CCP0_3 (io), 39 P7.1/CCP1_3 (io), 40 P7.2/CCP2_3 (io), 41 P7.3/CCP3_3 (io), 42 P2.0/PWM0/A8 (io), 43 P4.2/TXD2_2 (io), 44 P2.1/A9/PWM1 (io), 45 P2.2/A10/PWM2/CS_2 (io), 46 P2.3/A11/PWM3/MOSI_2 (io), 47 P2.4/A12/PWM4/SDA_2 (io), 48 P2.5/A13/PWM5/SCL_2 (io), 49 P2.6/A14/PWM6 (io), 50 P2.7/A15/PWM7 (io), 51 P0.0/AD0/ADC8/RXD3 (io), 52 P0.1/AD1/ADC9/TXD3 (io), 53 P0.2/AD2/ADC10/RXD4 (io), 54 P7.4/CS_3 (io), 55 P7.5/MOSI_3 (io), 56 P7.6/I2C_SDA3/MISO_3 (io), 57 P7.7/I2C_SCL3/SCLK_3 (io), 58 P4.3/RxD_4 (io), 59 P0.3/AD3/ADC11/TXD4 (io), 60 P0.4/AD4/ADC12 (io), 61 P0.5/AD5/ADC13 (io), 62 P0.6/AD6/ADC14 (io), 63 P0.7/AD7/ADC15 (io), 64 P1.0/ADC0/PWM0_2/RXD2 (io)

## STC15W-16
designator MCU, comment STC15W408AS-16P
MCU
footprint SOIC_16
pins: 1 P1.2/ADC2/SS/ECI/CMPO (io), 2 P1.3/ADC3/MOSI (io), 3 P1.4/ADC4/MISO (io), 4 P1.5/ADC5/SCLK (io), 5 P5.4/RST/MCLKO/CMP- (io), 6 Vcc (power), 7 P5.5/CMP+ (io), 8 Gnd (power), 9 P3.0/RxD/~{INT4}/T2CLKO (io), 10 P3.1/TxD/T2 (io), 11 P3.2/INT0 (io), 12 P3.3/INT1 (io), 13 P3.6/~{INT2}/RxD_2/CCP1_2 (io), 14 P3.7/~{INT3}/TxD_2/CCP2/CCP2_2 (io), 15 P1.0/ADC0/CCP1 (io), 16 P1.1/ADC1/CCP0 (io)

## STC15W-28
designator MCU?, comment STC15W408AS-28P
MCU
footprint SOP28
pins: 1 P2.6/CCP1_3 (io), 2 P2.7/CCP2_3 (io), 3 P1.0/ADC0/CCP1 (io), 4 P1.1/ADC1/CCP0 (io), 5 P1.2/ADC2/CS/ECI/CMPO (io), 6 P1.3/ADC3/MOSI (io), 7 P1.4/ADC4/MISO (io), 8 P1.5/ADC5/SCLK (io), 9 P1.6/ADC6/RXD_3 (io), 10 P1.7/ADC7/TXD_3 (io), 11 P5.4/RST/MCLKO/CMP- (io), 12 Vcc (power), 13 P5.5/CMP+ (io), 14 Gnd (power), 15 P3.0/RxD/~{INT4}/T2CLKO (io), 16 P3.1/TxD/T2 (io), 17 P3.2/INT0 (io), 18 P3.3/INT1 (io), 19 P3.4/T0/ECI_2 (io), 20 P3.5/T0CLK/CCP0_2 (io), 21 P3.6/~{INT2}/RxD_2/CCP1_2 (io), 22 P3.7/~{INT3}/TxD_2/CCP2/CCP2_2 (io), 23 P2.0 (io), 24 P2.1/SCLK_2 (io), 25 P2.2/MISO_2 (io), 26 P2.3/MOSI_2 (io), 27 CS_2 (io), 28 P2.5/CCP0_3 (io)

## stc89c52
designator MCU, comment MCU?
MCU
footprint DIP_40 (15.24)
pins: 1 P1.0, 2 P1.1, 3 P1.2, 4 P1.3, 5 P1.4, 6 P1.5, 7 P1.6, 8 P1.7, 9 RST, 10 P3.0/RXD, 11 P3.1/TXD, 12 P3.2, 13 P3.3, 14 P3.4, 15 P3.5, 16 P3.6, 17 P3.7, 18 XTAL2, 19 XTAL1, 20 GND, 21 P2.0, 22 P2.1, 23 P2.2, 24 P2.3, 25 P2.4, 26 P2.5, 27 P2.6, 28 P2.7, 29 PSEN, 30 ALE, 31 EN, 32 P0.7, 33 P0.6, 34 P0.5, 35 P0.4, 36 P0.3, 37 P0.2, 38 P0.1, 39 P0.0, 40 VCC

## STM8SYS
designator M?, comment STM8S103核心板
MODE; 版权归属: 源创客; BOM名称: STM8S103核心板; 学习资源: www.ooocke.com
footprint STM8S103SYS (STM8S103核心板)
pins: 1 IN+5~12V, 2 PD4, 3 PD5/TXD, 4 PD6/RXD, 5 RST, 6 PA1, 7 PA2, 8 GND, 9 +5V, 10 +3V3, 11 PA3/SPI_SS, 12 SDA/PB5, 13 SCL/PB4, 14 PC3, 15 PC4, 16 SCK/PC5, 17 MOSI/PC6, 18 MISO/PC7, 19 SWIM/PD1, 20 PD2, 21 PD3, 22 GND

## STM32_MCS_Cave
designator MCU?, comment STM32_MCS
MCU
footprint STM32_MCS (MCU)
pins: 0, 1 PA9/TIM1-CH2, 2 PA8TIM1-CH1, 3 PC9/TIM8-CH4, 4 PC8/TIM8-CH3, 5 PC7/TIM8-CH2, 6 PC6/TIM8-CH1, 7 PB15/MOSI2, 8 PB14/MISO2, 9 PB13/SCK2, 10 PB12/NSS-2/OLED, 11 PB11/IIC2-SDA, 12 PB10/IIC2-SCL, 13 PB2/BOOT1, 14 PB1/NSS2_2, 15 PB0/NSS2_3, 16 PC5/STEP, 17 PC4/DIR, 18 PA7/TIM3_CH2, 19 PA6/TIM3_CH1, 20 PA5/DAC_OUT2, 21 PA4/DAC_OUT1, 22 PA3/USART2-RXD, 23 PA2/USART2-TXD, 24 PA1/TIM5_CH2, 25 PA0/TIM5_CH1, 26 PC3/ADC123_IN13, 27 PC2/ADC123_IN12, 28 PC1/ADC123_IN11, 29 PC0/ADC123_IN10, 30 GND, 31 P13 (io), 32 PB9/TIM4_CH4, 33 PB8/TIM4_CH3, 34 PB7/TIM4_CH2, 35 PB6/TIM4_CH1, 36 PB5, 37 PB4, 38 PB3/TIM2_CH2, 39 PD2/USART5-RXD, 40 PC12/USART5-TXD, 41 PC11/USART4-RXD (io), 42 PC10/USART4-TXD (io), 43 PA15/TIM2-CH1, 44 GND, 45 5V
text: 电机控制; ADC/DAC; TIME; 步进电机; PWM; Cave

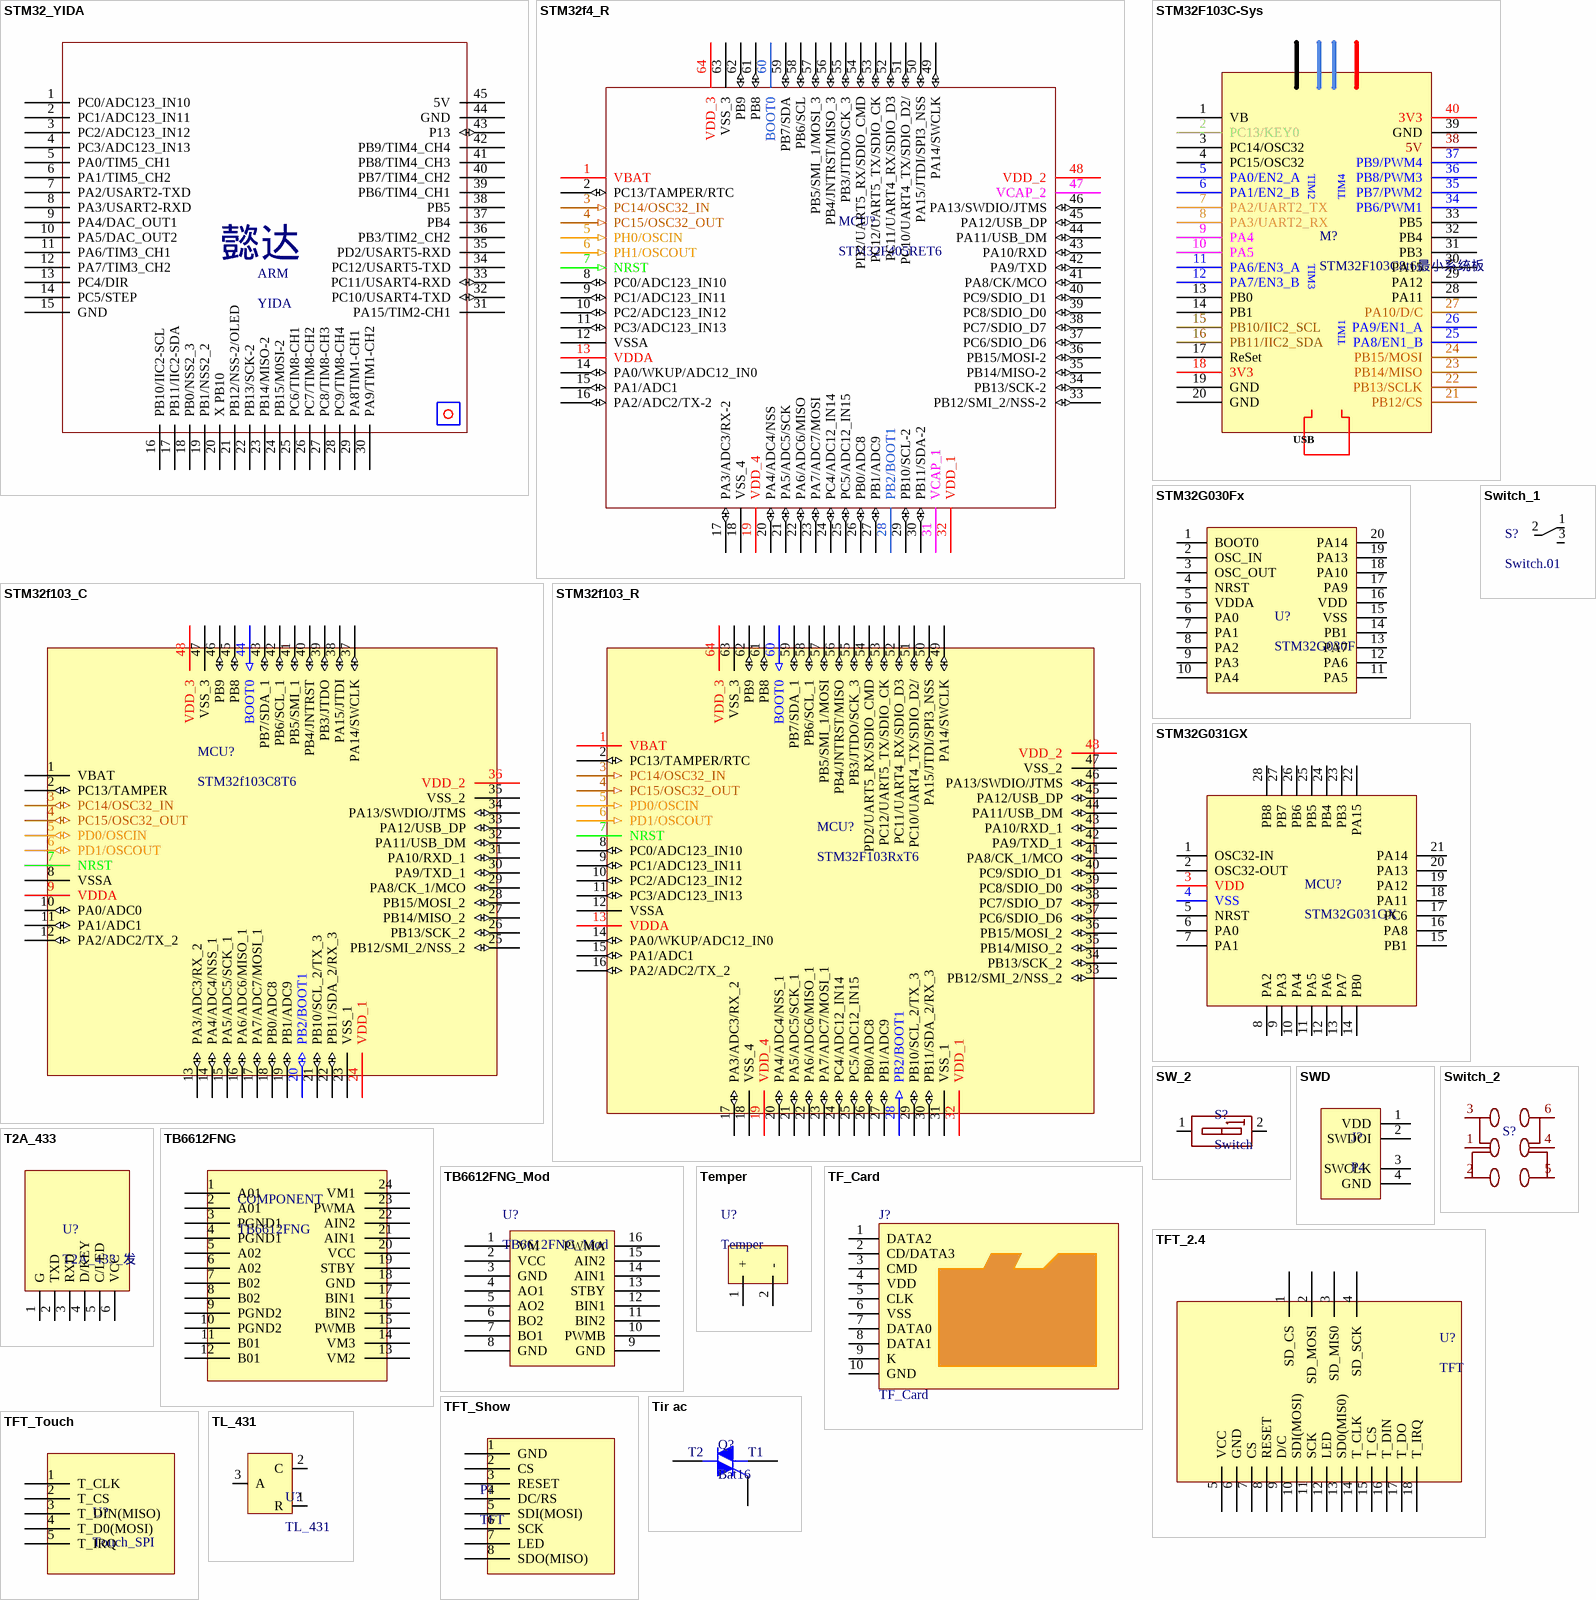
[diagram p6: symbols STM32_YIDA to TL_431]

## STM32_YIDA
designator ARM, comment YIDA
MCU
footprint YIDA
pins: 1 PC0/ADC123_IN10, 2 PC1/ADC123_IN11, 3 PC2/ADC123_IN12, 4 PC3/ADC123_IN13, 5 PA0/TIM5_CH1, 6 PA1/TIM5_CH2, 7 PA2/USART2-TXD, 8 PA3/USART2-RXD, 9 PA4/DAC_OUT1, 10 PA5/DAC_OUT2, 11 PA6/TIM3_CH1, 12 PA7/TIM3_CH2, 13 PC4/DIR, 14 PC5/STEP, 15 GND, 16 PB10/IIC2-SCL, 17 PB11/IIC2-SDA, 18 PB0/NSS2_3, 19 PB1/NSS2_2, 20 X PB10, 21 PB12/NSS-2/OLED, 22 PB13/SCK-2, 23 PB14/MISO-2, 24 PB15/M0SI-2, 25 PC6/TIM8-CH1, 26 PC7/TIM8-CH2, 27 PC8/TIM8-CH3, 28 PC9/TIM8-CH4, 29 PA8TIM1-CH1, 30 PA9/TIM1-CH2, 31 PA15/TIM2-CH1, 32 PC10/USART4-TXD (io), 33 PC11/USART4-RXD (io), 34 PC12/USART5-TXD, 35 PD2/USART5-RXD, 36 PB3/TIM2_CH2, 37 PB4, 38 PB5, 39 PB6/TIM4_CH1, 40 PB7/TIM4_CH2, 41 PB8/TIM4_CH3, 42 PB9/TIM4_CH4, 43 P13 (io), 44 GND, 45 5V
text: 懿达

## STM32f4_R
designator MCU?, comment STM32F405RET6
MCU
footprint LQFP_64_10X10
pins: 1 VBAT (power), 2 PC13/TAMPER/RTC (io), 3 PC14/OSC32_IN (in), 4 PC15/OSC32_OUT (in), 5 PH0/OSCIN (in), 6 PH1/OSCOUT (in), 7 NRST (in), 8 PC0/ADC123_IN10 (io), 9 PC1/ADC123_IN11 (io), 10 PC2/ADC123_IN12 (io), 11 PC3/ADC123_IN13 (io), 12 VSSA (power), 13 VDDA (power), 14 PA0/WKUP/ADC12_IN0 (io), 15 PA1/ADC1 (io), 16 PA2/ADC2/TX-2 (io), 17 PA3/ADC3/RX-2 (io), 18 VSS_4 (power), 19 VDD_4 (power), 20 PA4/ADC4/NSS (io), 21 PA5/ADC5/SCK (io), 22 PA6/ADC6/MISO (io), 23 PA7/ADC7/MOSI (io), 24 PC4/ADC12_IN14 (io), 25 PC5/ADC12_IN15 (io), 26 PB0/ADC8 (io), 27 PB1/ADC9 (io), 28 PB2/BOOT1, 29 PB10/SCL-2 (io), 30 PB11/SDA-2 (io), 31 VCAP_1, 32 VDD_1 (power), 33 PB12/SMI_2/NSS-2 (io), 34 PB13/SCK-2 (io), 35 PB14/MISO-2 (io), 36 PB15/MOSI-2 (io), 37 PC6/SDIO_D6 (io), 38 PC7/SDIO_D7 (io), 39 PC8/SDIO_D0 (io), 40 PC9/SDIO_D1 (io), 41 PA8/CK/MCO (io), 42 PA9/TXD (io), 43 PA10/RXD (io), 44 PA11/USB_DM (io), 45 PA12/USB_DP (io), 46 PA13/SWDIO/JTMS (io), 47 VCAP_2, 48 VDD_2 (power), 49 PA14/SWCLK (io), 50 PA15/JTDI/SPI3_NSS (io), 51 PC10/UART4_TX/SDIO_D2/ (io), 52 PC11/UART4_RX/SDIO_D3 (io), 53 PC12/UART5_TX/SDIO_CK (io), 54 PD2/UART5_RX/SDIO_CMD (io), 55 PB3/JTDO/SCK_3 (io), 56 PB4/JNTRST/MISO_3 (io), 57 PB5/SMI_1/MOSI_3 (io), 58 PB6/SCL (io), 59 PB7/SDA (io), 60 BOOT0, 61 PB8 (io), 62 PB9 (io), 63 VSS_3 (power), 64 VDD_3 (power)

## STM32f103_C
designator MCU?, comment STM32f103C8T6
MCU
footprint LQFP_48_7X7
pins: 1 VBAT (power), 2 PC13/TAMPER (io), 3 PC14/OSC32_IN (io), 4 PC15/OSC32_OUT (io), 5 PD0/OSCIN (io), 6 PD1/OSCOUT (io), 7 NRST, 8 VSSA (power), 9 VDDA (power), 10 PA0/ADC0 (io), 11 PA1/ADC1 (io), 12 PA2/ADC2/TX_2 (io), 13 PA3/ADC3/RX_2 (io), 14 PA4/ADC4/NSS_1 (io), 15 PA5/ADC5/SCK_1 (io), 16 PA6/ADC6/MISO_1 (io), 17 PA7/ADC7/MOSI_1 (io), 18 PB0/ADC8 (io), 19 PB1/ADC9 (io), 20 PB2/BOOT1 (io), 21 PB10/SCL_2/TX_3 (io), 22 PB11/SDA_2/RX_3 (io), 23 VSS_1 (power), 24 VDD_1 (power), 25 PB12/SMI_2/NSS_2 (io), 26 PB13/SCK_2 (io), 27 PB14/MISO_2 (io), 28 PB15/MOSI_2 (io), 29 PA8/CK_1/MCO (io), 30 PA9/TXD_1 (io), 31 PA10/RXD_1 (io), 32 PA11/USB_DM (io), 33 PA12/USB_DP (io), 34 PA13/SWDIO/JTMS (io), 35 VSS_2 (power), 36 VDD_2 (power), 37 PA14/SWCLK (io), 38 PA15/JTDI (io), 39 PB3/JTDO (io), 40 PB4/JNTRST (io), 41 PB5/SMI_1 (io), 42 PB6/SCL_1 (io), 43 PB7/SDA_1 (io), 44 BOOT0 (in), 45 PB8 (io), 46 PB9 (io), 47 VSS_3 (power), 48 VDD_3 (power)